# Altium schematic symbol library R.SchLib: 131 symbols
Pins are listed as number, name and electrical type; pins without a type are passive.

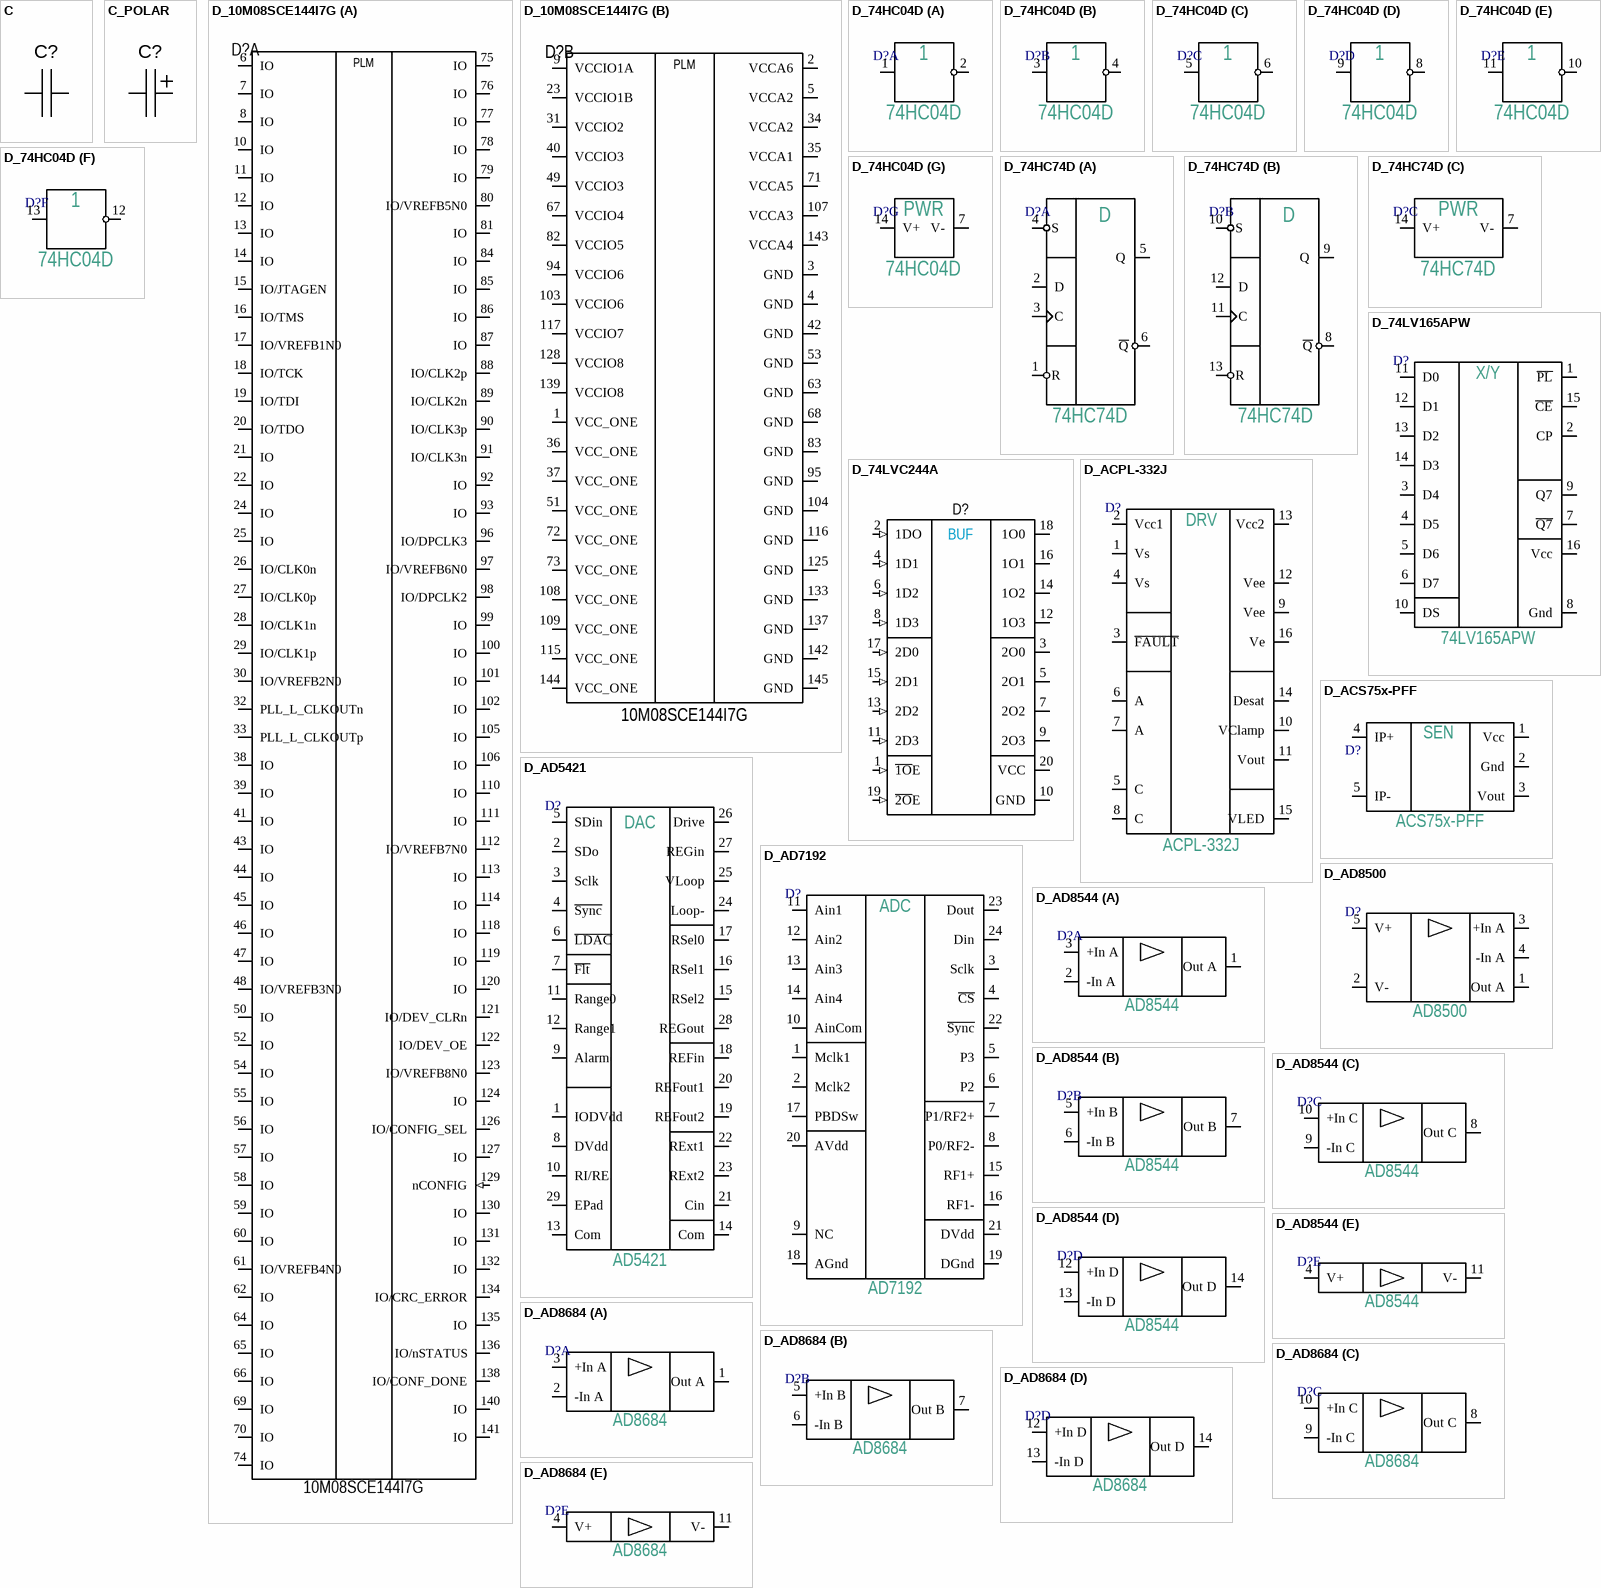
[diagram p0: symbols C to D_AD8684]

## C
designator C?
pins: 1, 2

## C_POLAR
designator C?
pins: 1, 2

## D_10M08SCE144I7G
designator D?  (value not drawn)
Part Number: 10M08SCE144I7G
part A pins: 6 IO (io), 7 IO (io), 8 IO (io), 10 IO (io), 11 IO (io), 12 IO (io), 13 IO (io), 14 IO (io), 15 IO/JTAGEN (io), 16 IO/TMS (io), 17 IO/VREFB1N0 (io), 18 IO/TCK (io), 19 IO/TDI (io), 20 IO/TDO (io), 21 IO (io), 22 IO (io), 24 IO (io), 25 IO (io), 26 IO/CLK0n (io), 27 IO/CLK0p (io), 28 IO/CLK1n (io), 29 IO/CLK1p (io), 30 IO/VREFB2N0 (io), 32 PLL_L_CLKOUTn (io), 33 PLL_L_CLKOUTp (io), 38 IO (io), 39 IO (io), 41 IO (io), 43 IO (io), 44 IO (io), 45 IO (io), 46 IO (io), 47 IO (io), 48 IO/VREFB3N0 (io), 50 IO (io), 52 IO (io), 54 IO (io), 55 IO (io), 56 IO (io), 57 IO (io), 58 IO (io), 59 IO (io), 60 IO (io), 61 IO/VREFB4N0 (io), 62 IO (io), 64 IO (io), 65 IO (io), 66 IO (io), 69 IO (io), 70 IO (io), 74 IO (io), 75 IO (io), 76 IO (io), 77 IO (io), 78 IO (io), 79 IO (io), 80 IO/VREFB5N0 (io), 81 IO (io), 84 IO (io), 85 IO (io), 86 IO (io), 87 IO (io), 88 IO/CLK2p (io), 89 IO/CLK2n (io), 90 IO/CLK3p (io), 91 IO/CLK3n (io), 92 IO (io), 93 IO (io), 96 IO/DPCLK3 (io), 97 IO/VREFB6N0 (io), 98 IO/DPCLK2 (io), 99 IO (io), 100 IO (io), 101 IO (io), 102 IO (io), 105 IO (io), 106 IO (io), 110 IO (io), 111 IO (io), 112 IO/VREFB7N0 (io), 113 IO (io), 114 IO (io), 118 IO (io), 119 IO (io), 120 IO (io), 121 IO/DEV_CLRn (hiz), 122 IO/DEV_OE (hiz), 123 IO/VREFB8N0 (io), 124 IO (io), 126 IO/CONFIG_SEL (hiz), 127 IO (io), 129 nCONFIG (in), 130 IO (io), 131 IO (io), 132 IO (io), 134 IO/CRC_ERROR (io), 135 IO (io), 136 IO/nSTATUS (io), 138 IO/CONF_DONE (io), 140 IO (io), 141 IO (io)
part B pins: 1 VCC_ONE (power), 2 VCCA6 (power), 3 GND (power), 4 GND (power), 5 VCCA2 (power), 9 VCCIO1A (power), 23 VCCIO1B (power), 31 VCCIO2 (power), 34 VCCA2 (power), 35 VCCA1 (power), 36 VCC_ONE (power), 37 VCC_ONE (power), 40 VCCIO3 (power), 42 GND (power), 49 VCCIO3 (power), 51 VCC_ONE (power), 53 GND (power), 63 GND (power), 67 VCCIO4 (power), 68 GND (power), 71 VCCA5 (power), 72 VCC_ONE (power), 73 VCC_ONE (power), 82 VCCIO5 (power), 83 GND (power), 94 VCCIO6 (power), 95 GND (power), 103 VCCIO6 (power), 104 GND (power), 107 VCCA3 (power), 108 VCC_ONE (power), 109 VCC_ONE (power), 115 VCC_ONE (power), 116 GND (power), 117 VCCIO7 (power), 125 GND (power), 128 VCCIO8 (power), 133 GND (power), 137 GND (power), 139 VCCIO8 (power), 142 GND (power), 143 VCCA4 (power), 144 VCC_ONE (power), 145 GND (power) "An exposed ground pad at the bottom of the package"
part A text: PLM
part B text: PLM

## D_74HC04D
designator D?
part A pins: 1, 2
part B pins: 3, 4
part C pins: 5, 6
part D pins: 8, 9
part E pins: 10, 11
part F pins: 12, 13
part G pins: 7 V-, 14 V+
part A text: 74HC04D
part B text: 74HC04D
part C text: 74HC04D
part D text: 74HC04D
part E text: 74HC04D
part F text: 74HC04D
part G text: PWR; 74HC04D

## D_74HC74D
designator D?
part A pins: 1 R, 2 D, 3 C, 4 S, 5 Q, 6 ~{Q}
part B pins: 8 ~{Q}, 9 Q, 10 S, 11 C, 12 D, 13 R
part C pins: 7 V-, 14 V+
part A text: 74HC74D
part B text: 74HC74D
part C text: PWR; 74HC74D

## D_74LV165APW
designator D?
pins: 1 ~{PL}, 2 CP, 3 D4, 4 D5, 5 D6, 6 D7, 7 ~{Q7}, 8 Gnd, 9 Q7, 10 DS, 11 D0, 12 D1, 13 D2, 14 D3, 15 ~{CE}, 16 Vcc
text: X/Y; 74LV165APW

## D_74LVC244A
designator D?, comment микросхема 74LVC244A  (value not drawn)
8-канальный не инвертирующий буфер; Manufacturer: ON SEMICONDUCTOR; Logic Device Type: Buffer, Non Inverting; Supply Voltage Max: 3.6; Supply Voltage Min: 2; Logic Case Style: TSSOP; Operating Temperature Max: 85 C; Operating Temperature Min: -40 C; Supplier: Чип и Дип; ManufacturerPartNumber: 74LVC244A; Family: микросхема
pins: 1 ~{1O}E (in), 2 1DO (in), 3 2O0 (hiz), 4 1D1 (in), 5 2O1 (hiz), 6 1D2 (in), 7 2O2 (hiz), 8 1D3 (in), 9 2O3 (hiz), 10 GND (power), 11 2D3 (in), 12 1O3 (hiz), 13 2D2 (in), 14 1O2 (hiz), 15 2D1 (in), 16 1O1 (hiz), 17 2D0 (in), 18 1O0 (hiz), 19 ~{2O}E (in), 20 VCC (power)
text: BUF

## D_ACPL-332J
designator D?
pins: 1 Vs, 2 Vcc1, 3 ~{FAULT}, 4 Vs, 5 C, 6 A, 7 A, 8 C, 9 Vee, 10 VClamp, 11 Vout, 12 Vee, 13 Vcc2, 14 Desat, 15 VLED, 16 Ve
text: DRV; ACPL-332J

## D_ACS75x-PFF
designator D?
pins: 1 Vcc, 2 Gnd, 3 Vout, 4 IP+, 5 IP-
text: SEN; ACS75x-PFF

## D_AD5421
designator D?
pins: 1 IODVdd, 2 SDo, 3 Sclk, 4 ~{Sync}, 5 SDin, 6 ~{LDAC}, 7 ~{Flt}, 8 DVdd, 9 Alarm, 10 RI/RE, 11 Range0, 12 Range1, 13 Com, 14 Com, 15 RSel2, 16 RSel1, 17 RSel0, 18 REFin, 19 REFout2, 20 REFout1, 21 Cin, 22 RExt1, 23 RExt2, 24 Loop-, 25 VLoop, 26 Drive, 27 REGin, 28 REGout, 29 EPad
text: DAC; AD5421

## D_AD7192
designator D?
pins: 1 Mclk1, 2 Mclk2, 3 Sclk, 4 ~{CS}, 5 P3, 6 P2, 7 P1/RF2+, 8 P0/RF2-, 9 NC, 10 AinCom, 11 Ain1, 12 Ain2, 13 Ain3, 14 Ain4, 15 RF1+, 16 RF1-, 17 PBDSw, 18 AGnd, 19 DGnd, 20 AVdd, 21 DVdd, 22 ~{Sync}, 23 Dout, 24 Din
text: ADC; AD7192

## D_AD8500
designator D?
pins: 1 Out A, 2 V-, 3 +In A, 4 -In A, 5 V+
text: AD8500

## D_AD8544
designator D?
part A pins: 1 Out A, 2 -In A, 3 +In A
part B pins: 5 +In B, 6 -In B, 7 Out B
part C pins: 8 Out C, 9 -In C, 10 +In C
part D pins: 12 +In D, 13 -In D, 14 Out D
part E pins: 4 V+, 11 V-
part A text: AD8544
part B text: AD8544
part C text: AD8544
part D text: AD8544
part E text: AD8544

## D_AD8684
designator D?
part A pins: 1 Out A, 2 -In A, 3 +In A
part B pins: 5 +In B, 6 -In B, 7 Out B
part C pins: 8 Out C, 9 -In C, 10 +In C
part D pins: 12 +In D, 13 -In D, 14 Out D
part E pins: 4 V+, 11 V-
part A text: AD8684
part B text: AD8684
part C text: AD8684
part D text: AD8684
part E text: AD8684

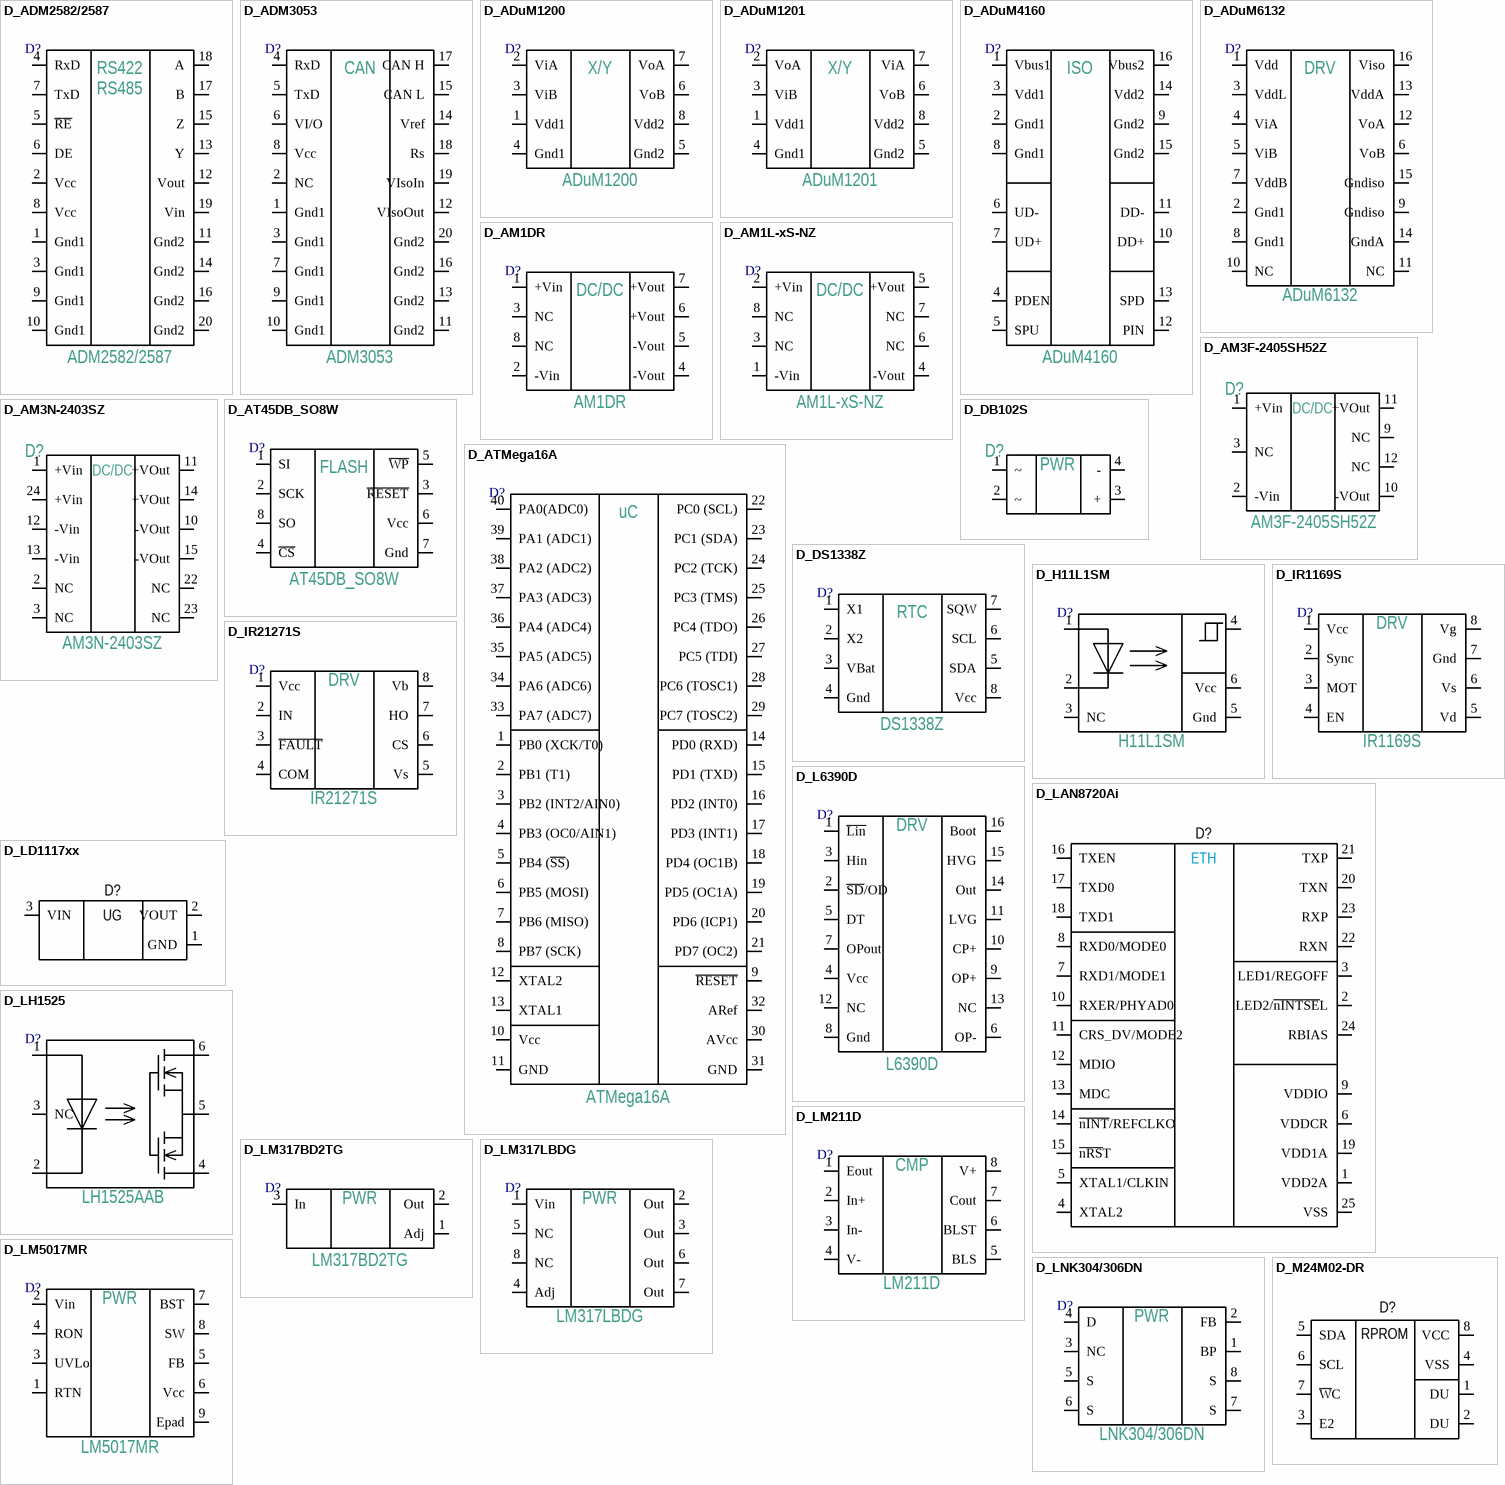
[diagram p1: symbols D_ADM2582/2587 to D_M24M02-DR]

## D_ADM2582/2587
designator D?
pins: 1 Gnd1, 2 Vcc, 3 Gnd1, 4 RxD, 5 ~{RE}, 6 DE, 7 TxD, 8 Vcc, 9 Gnd1, 10 Gnd1, 11 Gnd2, 12 Vout, 13 Y, 14 Gnd2, 15 Z, 16 Gnd2, 17 B, 18 A, 19 Vin, 20 Gnd2
text: RS422; RS485; ADM2582/2587

## D_ADM3053
designator D?
pins: 1 Gnd1, 2 NC, 3 Gnd1, 4 RxD, 5 TxD, 6 VI/O, 7 Gnd1, 8 Vcc, 9 Gnd1, 10 Gnd1, 11 Gnd2, 12 VIsoOut, 13 Gnd2, 14 Vref, 15 CAN L, 16 Gnd2, 17 CAN H, 18 Rs, 19 VIsoIn, 20 Gnd2
text: CAN; ADM3053

## D_ADuM1200
designator D?
pins: 1 Vdd1, 2 ViA, 3 ViB, 4 Gnd1, 5 Gnd2, 6 VoB, 7 VoA, 8 Vdd2
text: X/Y; ADuM1200

## D_ADuM1201
designator D?
pins: 1 Vdd1, 2 VoA, 3 ViB, 4 Gnd1, 5 Gnd2, 6 VoB, 7 ViA, 8 Vdd2
text: X/Y; ADuM1201

## D_ADuM4160
designator D?
pins: 1 Vbus1, 2 Gnd1, 3 Vdd1, 4 PDEN, 5 SPU, 6 UD-, 7 UD+, 8 Gnd1, 9 Gnd2, 10 DD+, 11 DD-, 12 PIN, 13 SPD, 14 Vdd2, 15 Gnd2, 16 Vbus2
text: ISO; ADuM4160

## D_ADuM6132
designator D?
pins: 1 Vdd, 2 Gnd1, 3 VddL, 4 ViA, 5 ViB, 6 VoB, 7 VddB, 8 Gnd1, 9 Gndiso, 10 NC, 11 NC, 12 VoA, 13 VddA, 14 GndA, 15 Gndiso, 16 Viso
text: DRV; ADuM6132

## D_AM1DR
designator D?
pins: 1 +Vin, 2 -Vin, 3 NC, 4 -Vout, 5 -Vout, 6 +Vout, 7 +Vout, 8 NC
text: DC/DC; AM1DR

## D_AM1L-xS-NZ
designator D?
pins: 1 -Vin, 2 +Vin, 3 NC, 4 -Vout, 5 +Vout, 6 NC, 7 NC, 8 NC
text: DC/DC; AM1L-xS-NZ

## D_AM3F-2405SH52Z
designator D?
pins: 1 +Vin, 2 -Vin, 3 NC, 9 NC, 10 -VOut, 11 +VOut, 12 NC
text: DC/DC; AM3F-2405SH52Z

## D_AM3N-2403SZ
designator D?  (value not drawn)
pins: 1 +Vin, 2 NC, 3 NC, 10 -VOut, 11 +VOut, 12 -Vin, 13 -Vin, 14 +VOut, 15 -VOut, 22 NC, 23 NC, 24 +Vin
text: DC/DC; AM3N-2403SZ

## D_AT45DB_SO8W
designator D?
pins: 1 SI, 2 SCK, 3 ~{RESET}, 4 ~{CS}, 5 ~{WP}, 6 Vcc, 7 Gnd, 8 SO
text: FLASH; AT45DB_SO8W

## D_ATMega16A
designator D?
pins: 1 PB0 (XCK/T0), 2 PB1 (T1), 3 PB2 (INT2/AIN0), 4 PB3 (OC0/AIN1), 5 PB4 (~{SS}), 6 PB5 (MOSI), 7 PB6 (MISO), 8 PB7 (SCK), 9 ~{RESET}, 10 Vcc, 11 GND, 12 XTAL2, 13 XTAL1, 14 PD0 (RXD), 15 PD1 (TXD), 16 PD2 (INT0), 17 PD3 (INT1), 18 PD4 (OC1B), 19 PD5 (OC1A), 20 PD6 (ICP1), 21 PD7 (OC2), 22 PC0 (SCL), 23 PC1 (SDA), 24 PC2 (TCK), 25 PC3 (TMS), 26 PC4 (TDO), 27 PC5 (TDI), 28 PC6 (TOSC1), 29 PC7 (TOSC2), 30 AVcc, 31 GND, 32 ARef, 33 PA7 (ADC7), 34 PA6 (ADC6), 35 PA5 (ADC5), 36 PA4 (ADC4), 37 PA3 (ADC3), 38 PA2 (ADC2), 39 PA1 (ADC1), 40 PA0(ADC0)
text: uC; ATMega16A

## D_DB102S
designator D?  (value not drawn)
pins: 1 ~, 2 ~, 3 +, 4 -
text: PWR

## D_DS1338Z
designator D?
pins: 1 X1, 2 X2, 3 VBat, 4 Gnd, 5 SDA, 6 SCL, 7 SQW, 8 Vcc
text: RTC; DS1338Z

## D_H11L1SM
designator D?
pins: 1 A, 2 K, 3 NC, 4, 5 Gnd, 6 Vcc
text: H11L1SM

## D_IR1169S
designator D?
pins: 1 Vcc, 2 Sync, 3 MOT, 4 EN, 5 Vd, 6 Vs, 7 Gnd, 8 Vg
text: DRV; IR1169S

## D_IR21271S
designator D?
pins: 1 Vcc, 2 IN, 3 ~{FAULT}, 4 COM, 5 Vs, 6 CS, 7 HO, 8 Vb
text: DRV; IR21271S

## D_L6390D
designator D?
pins: 1 ~{Lin}, 2 ~{SD}/OD, 3 Hin, 4 Vcc, 5 DT, 6 OP-, 7 OPout, 8 Gnd, 9 OP+, 10 CP+, 11 LVG, 12 NC, 13 NC, 14 Out, 15 HVG, 16 Boot
text: DRV; L6390D

## D_LAN8720Ai
designator D?, comment Микросхема LAN8720AI-CP  (value not drawn)
Ethernet трансивер 10/100 RMII 24QFN; Manufacturer: Microchip Technology; Voltage - Supply: 1.6 V ~ 3.6 V; Type: Transceiver; ManufacturerPartNumber: LAN8720AI-CP; Package / Case: 24-VFQFN Exposed Pad; Operating Temperature: -40°C ~ 85°C; Supplier: Компэл; Protocol: RMII; Family: Микросхема
pins: 1 VDD2A (power), 2 LED2/~{nINTSE}L, 3 LED1/REGOFF, 4 XTAL2, 5 XTAL1/CLKIN, 6 VDDCR (power), 7 RXD1/MODE1, 8 RXD0/MODE0, 9 VDDIO (power), 10 RXER/PHYAD0, 11 CRS_DV/MODE2, 12 MDIO, 13 MDC, 14 ~{nINT}/REFCLKO, 15 ~{nRS}T, 16 TXEN, 17 TXD0, 18 TXD1, 19 VDD1A (power), 20 TXN, 21 TXP, 22 RXN, 23 RXP, 24 RBIAS, 25 VSS (power)
text: ETH

## D_LD1117xx
designator D?, comment Микросхема LD1117S33CTR  (value not drawn)
LDO 3.3V 0.8A SOT223; Manufacturer: STMicroelectronics; Current - Output: 800mA; Voltage - Dropout (Typical): 1.1V @ 800mA; Voltage - Input: Up to 15V; Supplier Device Package: SOT-223; ManufacturerPartNumber: LD1117S33CTR; Operating Temperature: -40°C ~ 125°C; Voltage - Output: 3.3V; Supplier: Компэл; Family: Микросхема
pins: 1 GND (power), 2 VOUT (power), 3 VIN (power)
text: UG

## D_LH1525
designator D?
pins: 1 A, 2 K, 3 NC, 4 S', 5 DC, 6 S
text: LH1525AAB

## D_LM211D
designator D?
pins: 1 Eout, 2 In+, 3 In-, 4 V-, 5 BLS, 6 BLST, 7 Cout, 8 V+
text: CMP; LM211D

## D_LM317BD2TG
designator D?
pins: 1 Adj, 2 Out, 3 In
text: PWR; LM317BD2TG

## D_LM317LBDG
designator D?
pins: 1 Vin, 2 Out, 3 Out, 4 Adj, 5 NC, 6 Out, 7 Out, 8 NC
text: PWR; LM317LBDG

## D_LM5017MR
designator D?
pins: 1 RTN, 2 Vin, 3 UVLo, 4 RON, 5 FB, 6 Vcc, 7 BST, 8 SW, 9 Epad
text: PWR; LM5017MR

## D_LNK304/306DN
designator D?
pins: 1 BP, 2 FB, 3 NC, 4 D, 5 S, 6 S, 7 S, 8 S
text: PWR; LNK304/306DN

## D_M24M02-DR
designator D?, comment Микросхема M24M02-DRMN6TP  (value not drawn)
IC EEPROM 2MBIT 1MHZ 8SO; Manufacturer: STMicroelectronics; Format - Memory: EEPROMs - Serial; Memory Size: 2M (256K x 8); Voltage - Supply: 1.8 V ~ 5.5 V; Speed: 100kHz, 400kHz, 1MHz; Family: Микросхема; Memory Type: EEPROM; Package / Case: 8-SOIC (0.154", 3.90mm Width); ManufacturerPartNumber: M24M02-DRMN6TP; Supplier: Компэл; Operating Temperature: -40°C ~ 85°C (TA)
pins: 1 DU, 2 DU, 3 E2, 4 VSS (power), 5 SDA, 6 SCL, 7 ~{W}C, 8 VCC (power)
text: RPROM

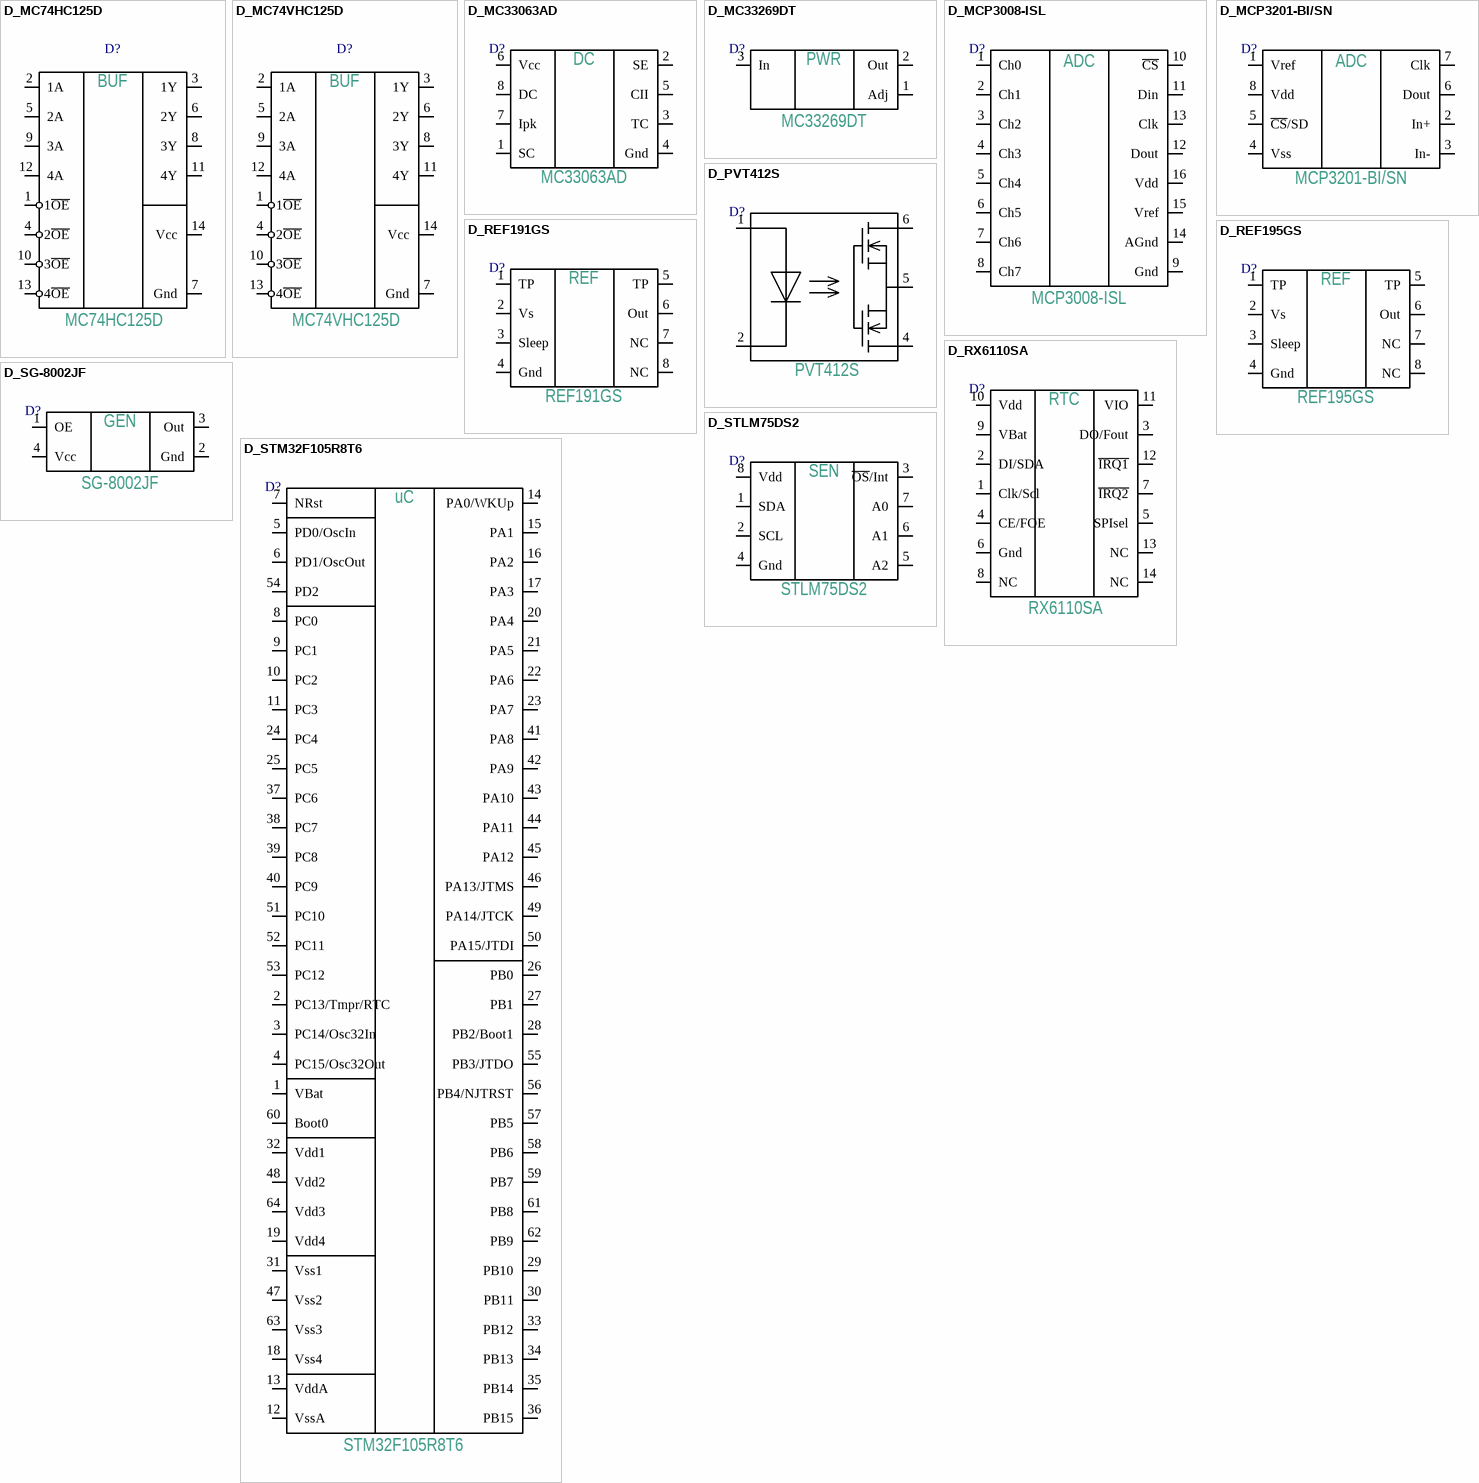
[diagram p2: symbols D_MC74HC125D to D_STM32F105R8T6]

## D_MC74HC125D
designator D?
pins: 1 1~{OE}, 2 1A, 3 1Y, 4 2~{OE}, 5 2A, 6 2Y, 7 Gnd, 8 3Y, 9 3A, 10 3~{OE}, 11 4Y, 12 4A, 13 4~{OE}, 14 Vcc
text: BUF; MC74HC125D

## D_MC74VHC125D
designator D?
pins: 1 1~{OE}, 2 1A, 3 1Y, 4 2~{OE}, 5 2A, 6 2Y, 7 Gnd, 8 3Y, 9 3A, 10 3~{OE}, 11 4Y, 12 4A, 13 4~{OE}, 14 Vcc
text: BUF; MC74VHC125D

## D_MC33063AD
designator D?
pins: 1 SC, 2 SE, 3 TC, 4 Gnd, 5 CII, 6 Vcc, 7 Ipk, 8 DC
text: MC33063AD

## D_MC33269DT
designator D?
pins: 1 Adj, 2 Out, 3 In
text: PWR; MC33269DT

## D_MCP3008-ISL
designator D?
pins: 1 Ch0, 2 Ch1, 3 Ch2, 4 Ch3, 5 Ch4, 6 Ch5, 7 Ch6, 8 Ch7, 9 Gnd, 10 ~{CS}, 11 Din, 12 Dout, 13 Clk, 14 AGnd, 15 Vref, 16 Vdd
text: ADC; MCP3008-ISL

## D_MCP3201-BI/SN
designator D?
pins: 1 Vref, 2 In+, 3 In-, 4 Vss, 5 ~{CS}/SD, 6 Dout, 7 Clk, 8 Vdd
text: ADC; MCP3201-BI/SN

## D_PVT412S
designator D?
pins: 1 A, 2 K, 4 S', 5 DC, 6 S
text: PVT412S

## D_REF191GS
designator D?
pins: 1 TP, 2 Vs, 3 Sleep, 4 Gnd, 5 TP, 6 Out, 7 NC, 8 NC
text: REF; REF191GS

## D_REF195GS
designator D?
pins: 1 TP, 2 Vs, 3 Sleep, 4 Gnd, 5 TP, 6 Out, 7 NC, 8 NC
text: REF; REF195GS

## D_RX6110SA
designator D?
pins: 1 Clk/Scl, 2 DI/SDA, 3 DO/Fout, 4 CE/FOE, 5 SPIsel, 6 Gnd, 7 ~{IRQ2}, 8 NC, 9 VBat, 10 Vdd, 11 VIO, 12 ~{IRQ1}, 13 NC, 14 NC
text: RTC; RX6110SA

## D_SG-8002JF
designator D?
pins: 1 OE, 2 Gnd, 3 Out, 4 Vcc
text: GEN; SG-8002JF

## D_STLM75DS2
designator D?
pins: 1 SDA, 2 SCL, 3 ~{OS}/Int, 4 Gnd, 5 A2, 6 A1, 7 A0, 8 Vdd
text: SEN; STLM75DS2

## D_STM32F105R8T6
designator D?
pins: 1 VBat, 2 PC13/Tmpr/RTC, 3 PC14/Osc32In, 4 PC15/Osc32Out, 5 PD0/OscIn, 6 PD1/OscOut, 7 NRst, 8 PC0, 9 PC1, 10 PC2, 11 PC3, 12 VssA, 13 VddA, 14 PA0/WKUp, 15 PA1, 16 PA2, 17 PA3, 18 Vss4, 19 Vdd4, 20 PA4, 21 PA5, 22 PA6, 23 PA7, 24 PC4, 25 PC5, 26 PB0, 27 PB1, 28 PB2/Boot1, 29 PB10, 30 PB11, 31 Vss1, 32 Vdd1, 33 PB12, 34 PB13, 35 PB14, 36 PB15, 37 PC6, 38 PC7, 39 PC8, 40 PC9, 41 PA8, 42 PA9, 43 PA10, 44 PA11, 45 PA12, 46 PA13/JTMS, 47 Vss2, 48 Vdd2, 49 PA14/JTCK, 50 PA15/JTDI, 51 PC10, 52 PC11, 53 PC12, 54 PD2, 55 PB3/JTDO, 56 PB4/NJTRST, 57 PB5, 58 PB6, 59 PB7, 60 Boot0, 61 PB8, 62 PB9, 63 Vss3, 64 Vdd3
text: uC; STM32F105R8T6

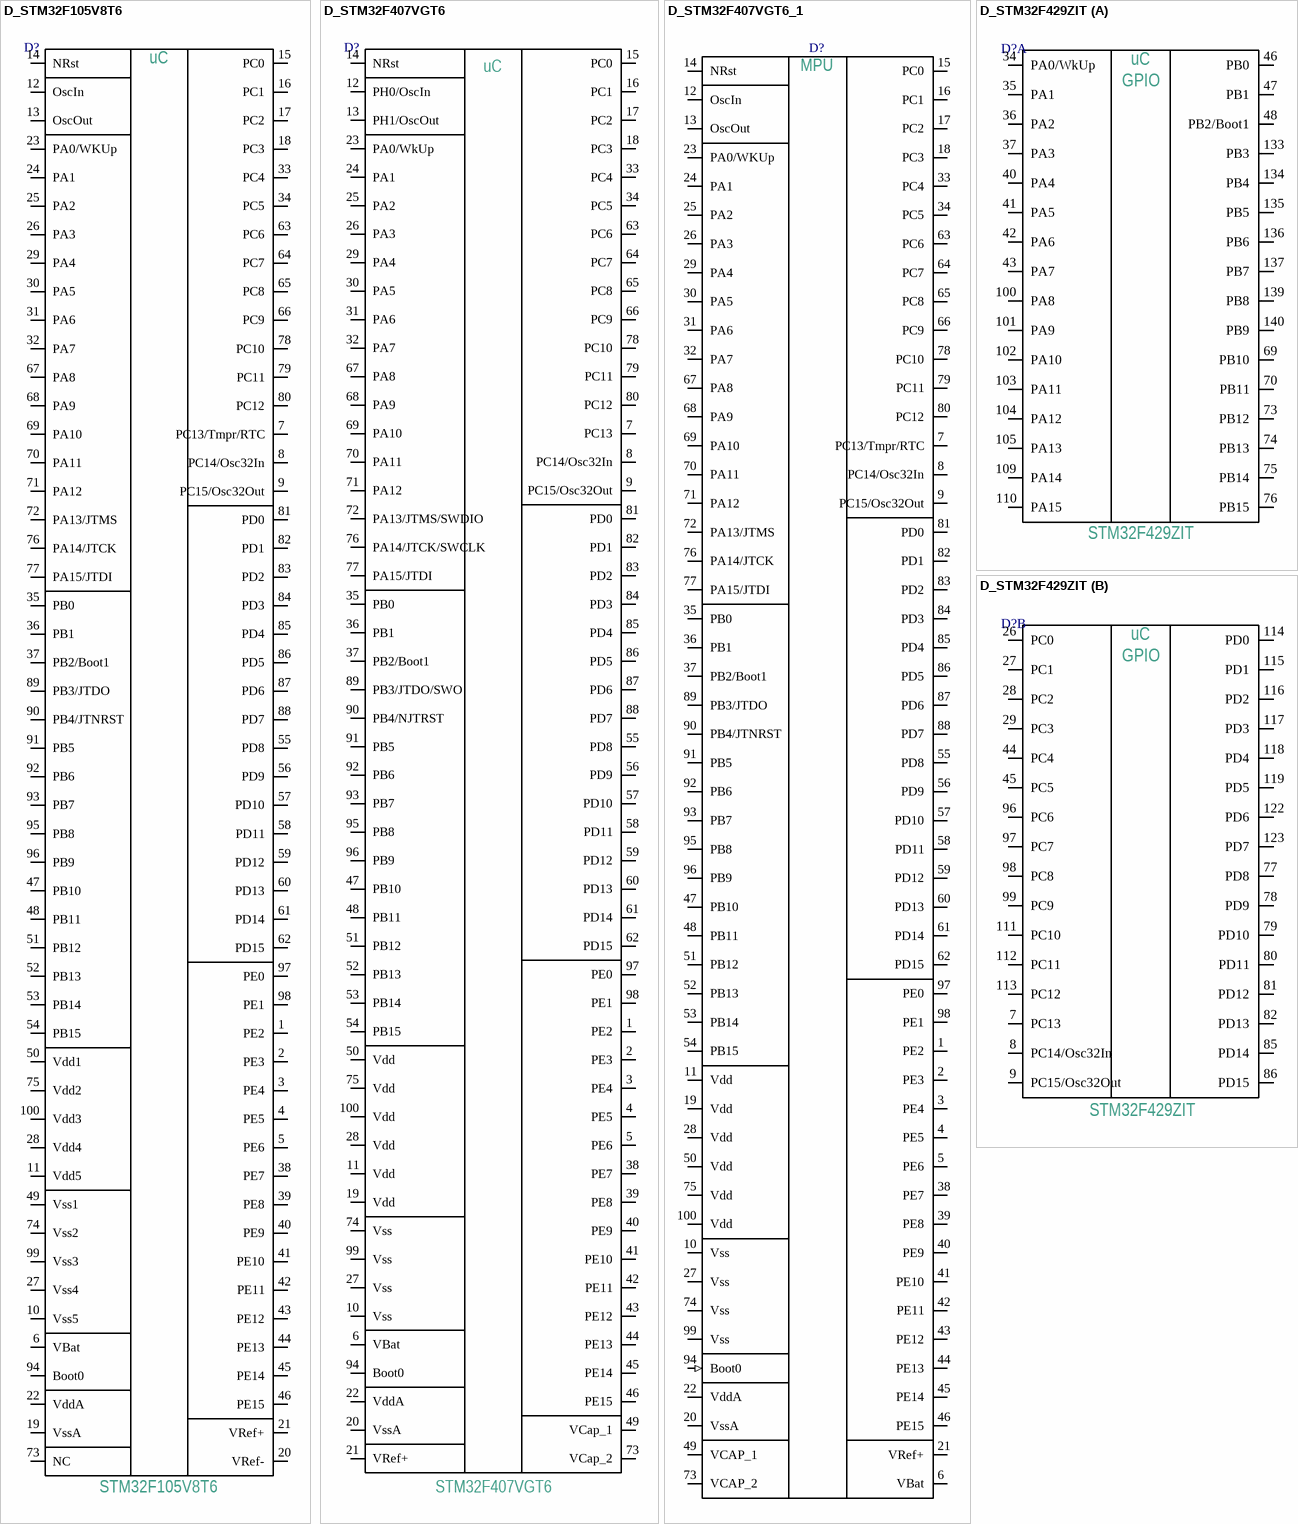
[diagram p3: symbols D_STM32F105V8T6 to D_STM32F429ZIT]

## D_STM32F105V8T6
designator D?
pins: 1 PE2, 2 PE3, 3 PE4, 4 PE5, 5 PE6, 6 VBat, 7 PC13/Tmpr/RTC, 8 PC14/Osc32In, 9 PC15/Osc32Out, 10 Vss5, 11 Vdd5, 12 OscIn, 13 OscOut, 14 NRst, 15 PC0, 16 PC1, 17 PC2, 18 PC3, 19 VssA, 20 VRef-, 21 VRef+, 22 VddA, 23 PA0/WKUp, 24 PA1, 25 PA2, 26 PA3, 27 Vss4, 28 Vdd4, 29 PA4, 30 PA5, 31 PA6, 32 PA7, 33 PC4, 34 PC5, 35 PB0, 36 PB1, 37 PB2/Boot1, 38 PE7, 39 PE8, 40 PE9, 41 PE10, 42 PE11, 43 PE12, 44 PE13, 45 PE14, 46 PE15, 47 PB10, 48 PB11, 49 Vss1, 50 Vdd1, 51 PB12, 52 PB13, 53 PB14, 54 PB15, 55 PD8, 56 PD9, 57 PD10, 58 PD11, 59 PD12, 60 PD13, 61 PD14, 62 PD15, 63 PC6, 64 PC7, 65 PC8, 66 PC9, 67 PA8, 68 PA9, 69 PA10, 70 PA11, 71 PA12, 72 PA13/JTMS, 73 NC, 74 Vss2, 75 Vdd2, 76 PA14/JTCK, 77 PA15/JTDI, 78 PC10, 79 PC11, 80 PC12, 81 PD0, 82 PD1, 83 PD2, 84 PD3, 85 PD4, 86 PD5, 87 PD6, 88 PD7, 89 PB3/JTDO, 90 PB4/JTNRST, 91 PB5, 92 PB6, 93 PB7, 94 Boot0, 95 PB8, 96 PB9, 97 PE0, 98 PE1, 99 Vss3, 100 Vdd3
text: uC; STM32F105V8T6

## D_STM32F407VGT6
designator D?
pins: 1 PE2, 2 PE3, 3 PE4, 4 PE5, 5 PE6, 6 VBat, 7 PC13, 8 PC14/Osc32In, 9 PC15/Osc32Out, 10 Vss, 11 Vdd, 12 PH0/OscIn, 13 PH1/OscOut, 14 NRst, 15 PC0, 16 PC1, 17 PC2, 18 PC3, 19 Vdd, 20 VssA, 21 VRef+, 22 VddA, 23 PA0/WkUp, 24 PA1, 25 PA2, 26 PA3, 27 Vss, 28 Vdd, 29 PA4, 30 PA5, 31 PA6, 32 PA7, 33 PC4, 34 PC5, 35 PB0, 36 PB1, 37 PB2/Boot1, 38 PE7, 39 PE8, 40 PE9, 41 PE10, 42 PE11, 43 PE12, 44 PE13, 45 PE14, 46 PE15, 47 PB10, 48 PB11, 49 VCap_1, 50 Vdd, 51 PB12, 52 PB13, 53 PB14, 54 PB15, 55 PD8, 56 PD9, 57 PD10, 58 PD11, 59 PD12, 60 PD13, 61 PD14, 62 PD15, 63 PC6, 64 PC7, 65 PC8, 66 PC9, 67 PA8, 68 PA9, 69 PA10, 70 PA11, 71 PA12, 72 PA13/JTMS/SWDIO, 73 VCap_2, 74 Vss, 75 Vdd, 76 PA14/JTCK/SWCLK, 77 PA15/JTDI, 78 PC10, 79 PC11, 80 PC12, 81 PD0, 82 PD1, 83 PD2, 84 PD3, 85 PD4, 86 PD5, 87 PD6, 88 PD7, 89 PB3/JTDO/SWO, 90 PB4/NJTRST, 91 PB5, 92 PB6, 93 PB7, 94 Boot0, 95 PB8, 96 PB9, 97 PE0, 98 PE1, 99 Vss, 100 Vdd
text: uC; STM32F407VGT6

## D_STM32F407VGT6_1
designator D?, comment Микросхема STM32F407VGT6  (value not drawn)
Микроконтроллер STM32F407VGT; Manufacturer: STMicroelectronics; Maximum Clock Frequency: 168 MHz; Operating Supply Voltage: 1.8 V to 3.6 V; Family: Микросхема; Supplier: Компэл; Minimum Operating Temperature: - 40 C; ManufacturerPartNumber: STM32F407VGT6; Maximum Operating Temperature: + 85 C; Package / Case: LQFP-100
pins: 1 PE2, 2 PE3, 3 PE4, 4 PE5, 5 PE6, 6 VBat, 7 PC13/Tmpr/RTC, 8 PC14/Osc32In, 9 PC15/Osc32Out, 10 Vss (power), 11 Vdd (power), 12 OscIn, 13 OscOut, 14 NRst (oc), 15 PC0, 16 PC1, 17 PC2, 18 PC3, 19 Vdd (power), 20 VssA (power), 21 VRef+ (power), 22 VddA (power), 23 PA0/WKUp, 24 PA1, 25 PA2, 26 PA3, 27 Vss (power), 28 Vdd (power), 29 PA4, 30 PA5, 31 PA6, 32 PA7, 33 PC4, 34 PC5, 35 PB0, 36 PB1, 37 PB2/Boot1, 38 PE7, 39 PE8, 40 PE9, 41 PE10, 42 PE11, 43 PE12, 44 PE13, 45 PE14, 46 PE15, 47 PB10, 48 PB11, 49 VCAP_1 (power), 50 Vdd (power), 51 PB12, 52 PB13, 53 PB14, 54 PB15, 55 PD8, 56 PD9, 57 PD10, 58 PD11, 59 PD12, 60 PD13, 61 PD14, 62 PD15, 63 PC6, 64 PC7, 65 PC8, 66 PC9, 67 PA8, 68 PA9, 69 PA10, 70 PA11, 71 PA12, 72 PA13/JTMS, 73 VCAP_2 (power), 74 Vss (power), 75 Vdd (power), 76 PA14/JTCK, 77 PA15/JTDI, 78 PC10, 79 PC11, 80 PC12, 81 PD0, 82 PD1, 83 PD2, 84 PD3, 85 PD4, 86 PD5, 87 PD6, 88 PD7, 89 PB3/JTDO, 90 PB4/JTNRST, 91 PB5, 92 PB6, 93 PB7, 94 Boot0 (in), 95 PB8, 96 PB9, 97 PE0, 98 PE1, 99 Vss (power), 100 Vdd (power)
text: MPU

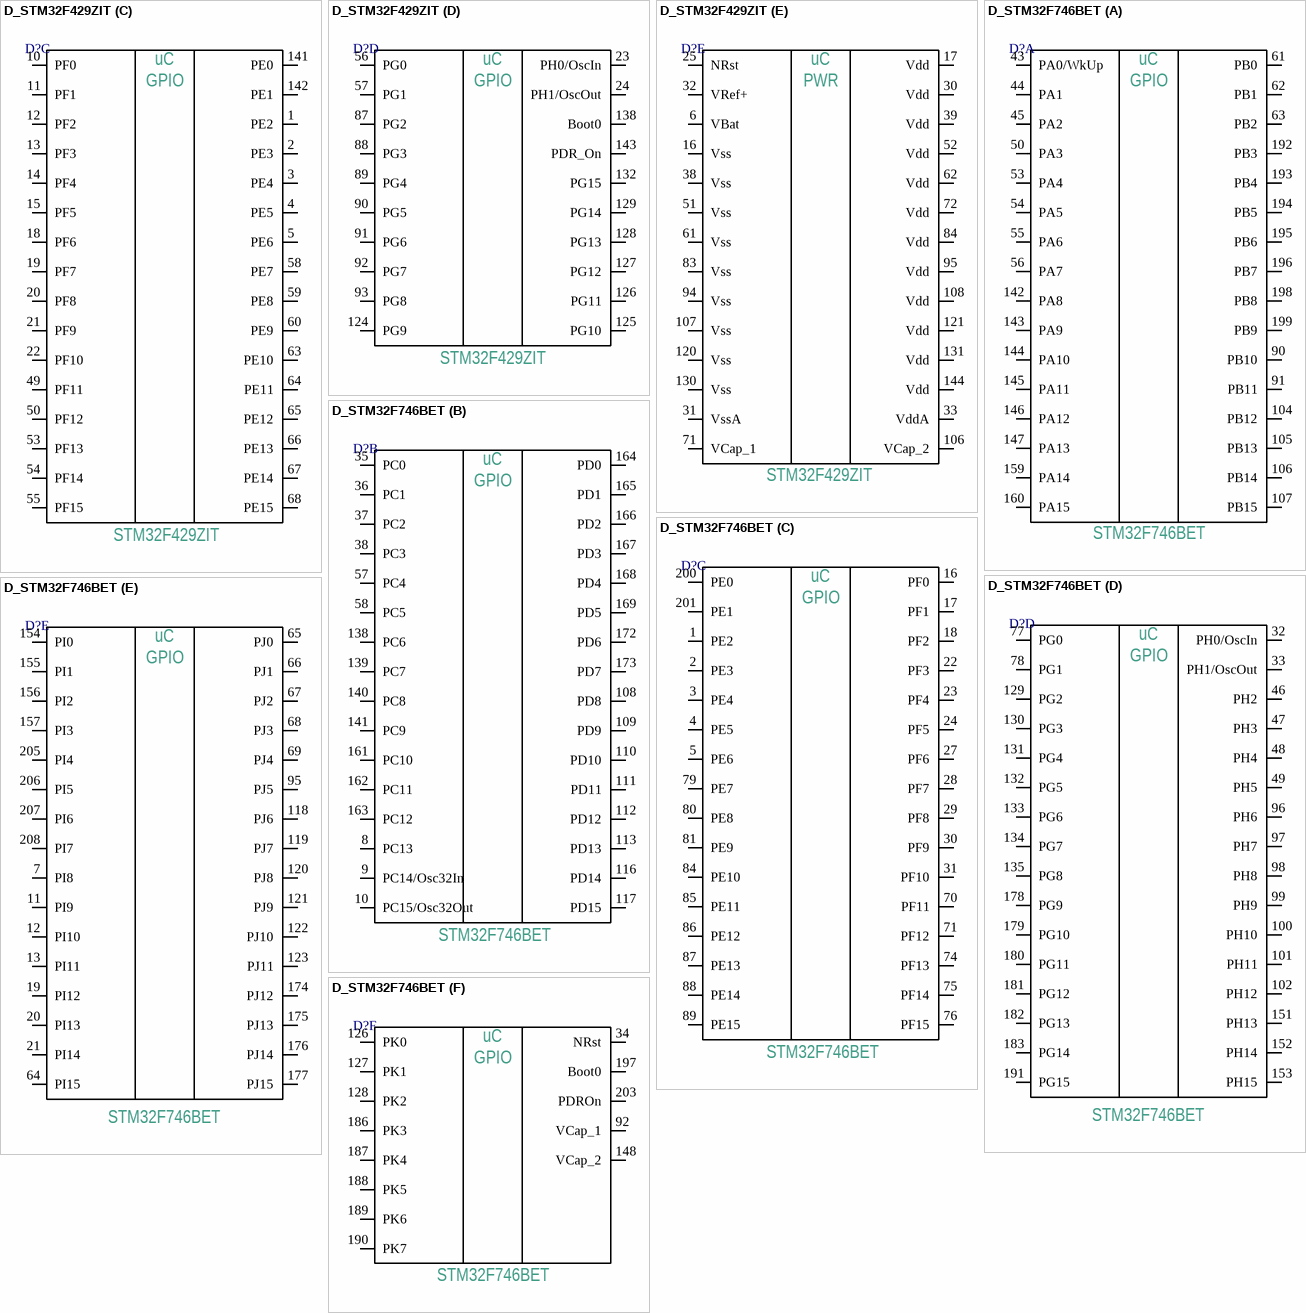
[diagram p4: symbols D_STM32F429ZIT to D_STM32F746BET]

## D_STM32F429ZIT
designator D?
part A pins: 34 PA0/WkUp, 35 PA1, 36 PA2, 37 PA3, 40 PA4, 41 PA5, 42 PA6, 43 PA7, 46 PB0, 47 PB1, 48 PB2/Boot1, 69 PB10, 70 PB11, 73 PB12, 74 PB13, 75 PB14, 76 PB15, 100 PA8, 101 PA9, 102 PA10, 103 PA11, 104 PA12, 105 PA13, 109 PA14, 110 PA15, 133 PB3, 134 PB4, 135 PB5, 136 PB6, 137 PB7, 139 PB8, 140 PB9
part B pins: 7 PC13, 8 PC14/Osc32In, 9 PC15/Osc32Out, 26 PC0, 27 PC1, 28 PC2, 29 PC3, 44 PC4, 45 PC5, 77 PD8, 78 PD9, 79 PD10, 80 PD11, 81 PD12, 82 PD13, 85 PD14, 86 PD15, 96 PC6, 97 PC7, 98 PC8, 99 PC9, 111 PC10, 112 PC11, 113 PC12, 114 PD0, 115 PD1, 116 PD2, 117 PD3, 118 PD4, 119 PD5, 122 PD6, 123 PD7
part C pins: 1 PE2, 2 PE3, 3 PE4, 4 PE5, 5 PE6, 10 PF0, 11 PF1, 12 PF2, 13 PF3, 14 PF4, 15 PF5, 18 PF6, 19 PF7, 20 PF8, 21 PF9, 22 PF10, 49 PF11, 50 PF12, 53 PF13, 54 PF14, 55 PF15, 58 PE7, 59 PE8, 60 PE9, 63 PE10, 64 PE11, 65 PE12, 66 PE13, 67 PE14, 68 PE15, 141 PE0, 142 PE1
part D pins: 23 PH0/OscIn, 24 PH1/OscOut, 56 PG0, 57 PG1, 87 PG2, 88 PG3, 89 PG4, 90 PG5, 91 PG6, 92 PG7, 93 PG8, 124 PG9, 125 PG10, 126 PG11, 127 PG12, 128 PG13, 129 PG14, 132 PG15, 138 Boot0, 143 PDR_On
part E pins: 6 VBat, 16 Vss, 17 Vdd, 25 NRst, 30 Vdd, 31 VssA, 32 VRef+, 33 VddA, 38 Vss, 39 Vdd, 51 Vss, 52 Vdd, 61 Vss, 62 Vdd, 71 VCap_1, 72 Vdd, 83 Vss, 84 Vdd, 94 Vss, 95 Vdd, 106 VCap_2, 107 Vss, 108 Vdd, 120 Vss, 121 Vdd, 130 Vss, 131 Vdd, 144 Vdd
part A text: uC; GPIO; STM32F429ZIT
part B text: uC; GPIO; STM32F429ZIT
part C text: uC; GPIO; STM32F429ZIT
part D text: uC; GPIO; STM32F429ZIT
part E text: uC; PWR; STM32F429ZIT

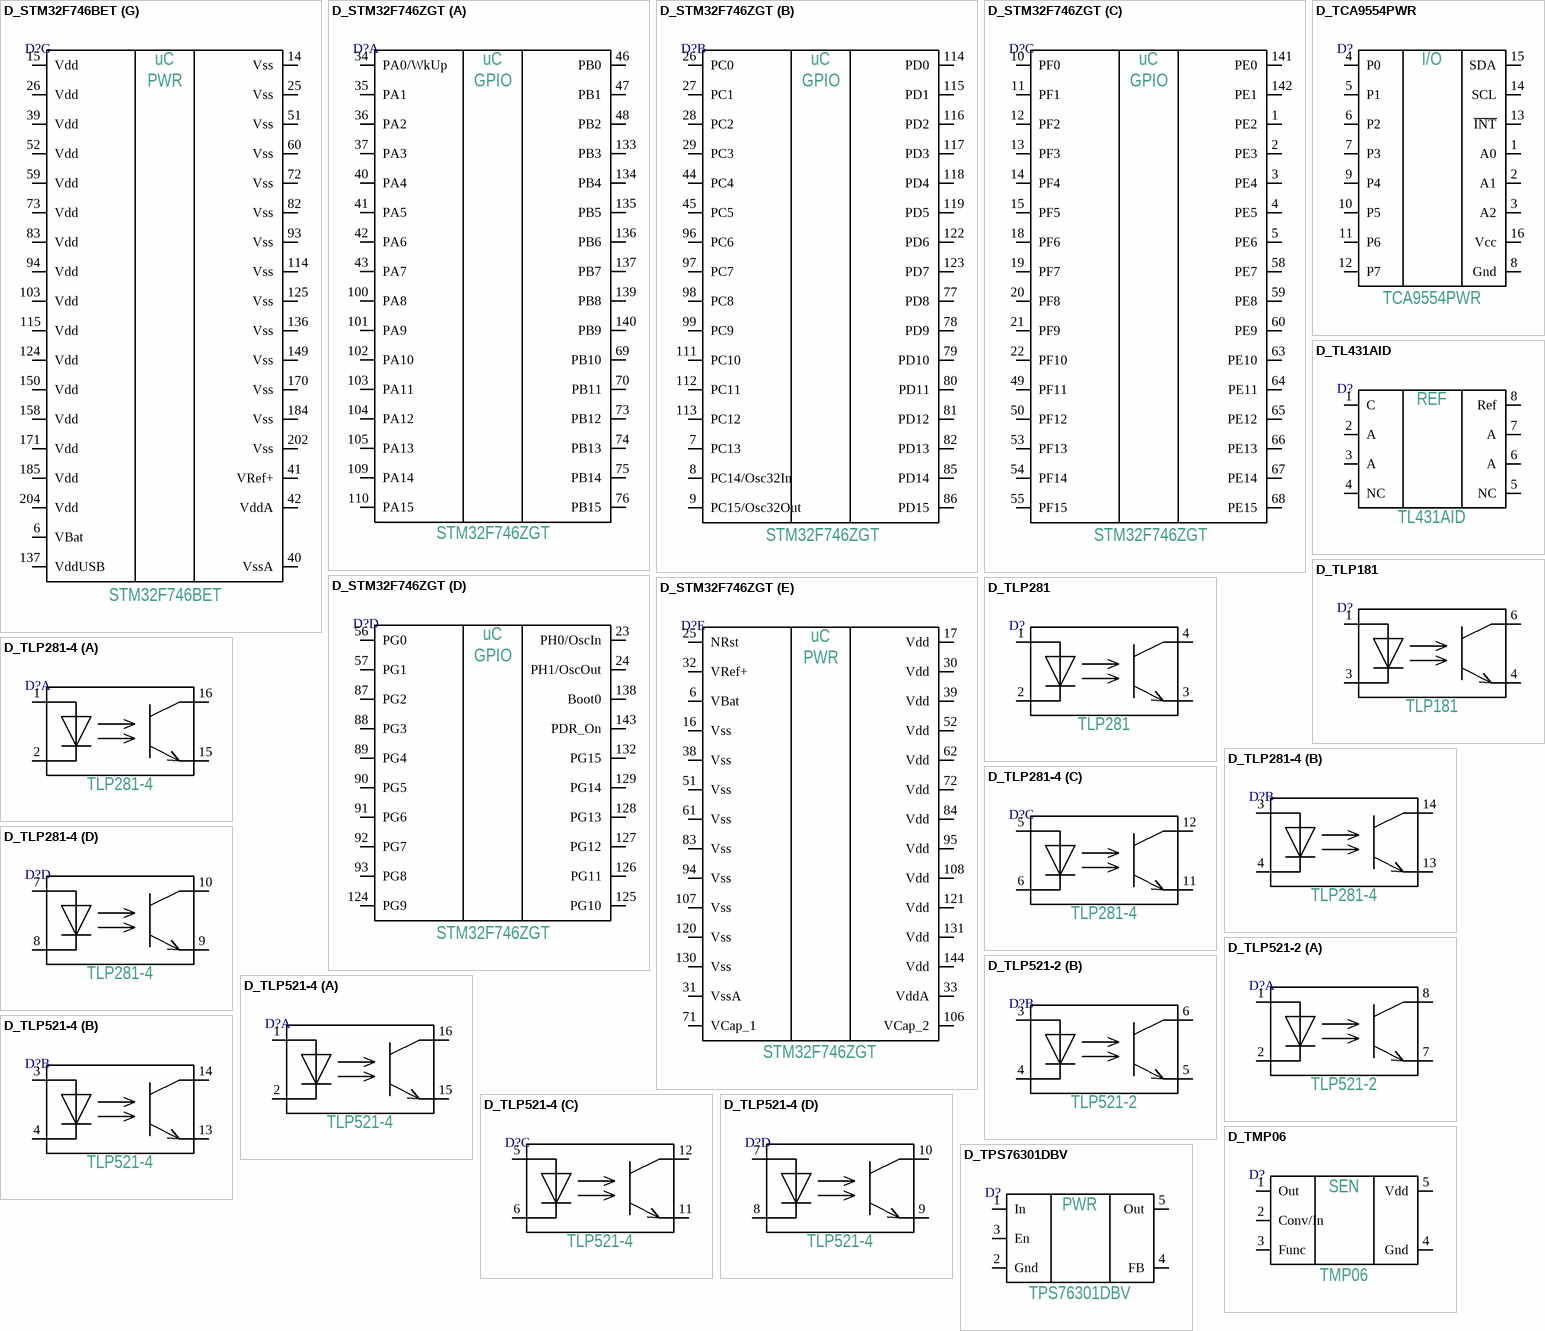
[diagram p5: symbols D_STM32F746BET to D_TPS76301DBV]

## D_STM32F746BET
designator D?
part A pins: 43 PA0/WkUp, 44 PA1, 45 PA2, 50 PA3, 53 PA4, 54 PA5, 55 PA6, 56 PA7, 61 PB0, 62 PB1, 63 PB2, 90 PB10, 91 PB11, 104 PB12, 105 PB13, 106 PB14, 107 PB15, 142 PA8, 143 PA9, 144 PA10, 145 PA11, 146 PA12, 147 PA13, 159 PA14, 160 PA15, 192 PB3, 193 PB4, 194 PB5, 195 PB6, 196 PB7, 198 PB8, 199 PB9
part B pins: 8 PC13, 9 PC14/Osc32In, 10 PC15/Osc32Out, 35 PC0, 36 PC1, 37 PC2, 38 PC3, 57 PC4, 58 PC5, 108 PD8, 109 PD9, 110 PD10, 111 PD11, 112 PD12, 113 PD13, 116 PD14, 117 PD15, 138 PC6, 139 PC7, 140 PC8, 141 PC9, 161 PC10, 162 PC11, 163 PC12, 164 PD0, 165 PD1, 166 PD2, 167 PD3, 168 PD4, 169 PD5, 172 PD6, 173 PD7
part C pins: 1 PE2, 2 PE3, 3 PE4, 4 PE5, 5 PE6, 16 PF0, 17 PF1, 18 PF2, 22 PF3, 23 PF4, 24 PF5, 27 PF6, 28 PF7, 29 PF8, 30 PF9, 31 PF10, 70 PF11, 71 PF12, 74 PF13, 75 PF14, 76 PF15, 79 PE7, 80 PE8, 81 PE9, 84 PE10, 85 PE11, 86 PE12, 87 PE13, 88 PE14, 89 PE15, 200 PE0, 201 PE1
part D pins: 32 PH0/OscIn, 33 PH1/OscOut, 46 PH2, 47 PH3, 48 PH4, 49 PH5, 77 PG0, 78 PG1, 96 PH6, 97 PH7, 98 PH8, 99 PH9, 100 PH10, 101 PH11, 102 PH12, 129 PG2, 130 PG3, 131 PG4, 132 PG5, 133 PG6, 134 PG7, 135 PG8, 151 PH13, 152 PH14, 153 PH15, 178 PG9, 179 PG10, 180 PG11, 181 PG12, 182 PG13, 183 PG14, 191 PG15
part E pins: 7 PI8, 11 PI9, 12 PI10, 13 PI11, 19 PI12, 20 PI13, 21 PI14, 64 PI15, 65 PJ0, 66 PJ1, 67 PJ2, 68 PJ3, 69 PJ4, 95 PJ5, 118 PJ6, 119 PJ7, 120 PJ8, 121 PJ9, 122 PJ10, 123 PJ11, 154 PI0, 155 PI1, 156 PI2, 157 PI3, 174 PJ12, 175 PJ13, 176 PJ14, 177 PJ15, 205 PI4, 206 PI5, 207 PI6, 208 PI7
part F pins: 34 NRst, 92 VCap_1, 126 PK0, 127 PK1, 128 PK2, 148 VCap_2, 186 PK3, 187 PK4, 188 PK5, 189 PK6, 190 PK7, 197 Boot0, 203 PDROn
part G pins: 6 VBat, 14 Vss, 15 Vdd, 25 Vss, 26 Vdd, 39 Vdd, 40 VssA, 41 VRef+, 42 VddA, 51 Vss, 52 Vdd, 59 Vdd, 60 Vss, 72 Vss, 73 Vdd, 82 Vss, 83 Vdd, 93 Vss, 94 Vdd, 103 Vdd, 114 Vss, 115 Vdd, 124 Vdd, 125 Vss, 136 Vss, 137 VddUSB, 149 Vss, 150 Vdd, 158 Vdd, 170 Vss, 171 Vdd, 184 Vss, 185 Vdd, 202 Vss, 204 Vdd
part A text: uC; GPIO; STM32F746BET
part B text: uC; GPIO; STM32F746BET
part C text: uC; GPIO; STM32F746BET
part D text: uC; GPIO; STM32F746BET
part E text: uC; GPIO; STM32F746BET
part F text: uC; GPIO; STM32F746BET
part G text: uC; PWR; STM32F746BET

## D_STM32F746ZGT
designator D?
part A pins: 34 PA0/WkUp, 35 PA1, 36 PA2, 37 PA3, 40 PA4, 41 PA5, 42 PA6, 43 PA7, 46 PB0, 47 PB1, 48 PB2, 69 PB10, 70 PB11, 73 PB12, 74 PB13, 75 PB14, 76 PB15, 100 PA8, 101 PA9, 102 PA10, 103 PA11, 104 PA12, 105 PA13, 109 PA14, 110 PA15, 133 PB3, 134 PB4, 135 PB5, 136 PB6, 137 PB7, 139 PB8, 140 PB9
part B pins: 7 PC13, 8 PC14/Osc32In, 9 PC15/Osc32Out, 26 PC0, 27 PC1, 28 PC2, 29 PC3, 44 PC4, 45 PC5, 77 PD8, 78 PD9, 79 PD10, 80 PD11, 81 PD12, 82 PD13, 85 PD14, 86 PD15, 96 PC6, 97 PC7, 98 PC8, 99 PC9, 111 PC10, 112 PC11, 113 PC12, 114 PD0, 115 PD1, 116 PD2, 117 PD3, 118 PD4, 119 PD5, 122 PD6, 123 PD7
part C pins: 1 PE2, 2 PE3, 3 PE4, 4 PE5, 5 PE6, 10 PF0, 11 PF1, 12 PF2, 13 PF3, 14 PF4, 15 PF5, 18 PF6, 19 PF7, 20 PF8, 21 PF9, 22 PF10, 49 PF11, 50 PF12, 53 PF13, 54 PF14, 55 PF15, 58 PE7, 59 PE8, 60 PE9, 63 PE10, 64 PE11, 65 PE12, 66 PE13, 67 PE14, 68 PE15, 141 PE0, 142 PE1
part D pins: 23 PH0/OscIn, 24 PH1/OscOut, 56 PG0, 57 PG1, 87 PG2, 88 PG3, 89 PG4, 90 PG5, 91 PG6, 92 PG7, 93 PG8, 124 PG9, 125 PG10, 126 PG11, 127 PG12, 128 PG13, 129 PG14, 132 PG15, 138 Boot0, 143 PDR_On
part E pins: 6 VBat, 16 Vss, 17 Vdd, 25 NRst, 30 Vdd, 31 VssA, 32 VRef+, 33 VddA, 38 Vss, 39 Vdd, 51 Vss, 52 Vdd, 61 Vss, 62 Vdd, 71 VCap_1, 72 Vdd, 83 Vss, 84 Vdd, 94 Vss, 95 Vdd, 106 VCap_2, 107 Vss, 108 Vdd, 120 Vss, 121 Vdd, 130 Vss, 131 Vdd, 144 Vdd
part A text: uC; GPIO; STM32F746ZGT
part B text: uC; GPIO; STM32F746ZGT
part C text: uC; GPIO; STM32F746ZGT
part D text: uC; GPIO; STM32F746ZGT
part E text: uC; PWR; STM32F746ZGT

## D_TCA9554PWR
designator D?
pins: 1 A0, 2 A1, 3 A2, 4 P0, 5 P1, 6 P2, 7 P3, 8 Gnd, 9 P4, 10 P5, 11 P6, 12 P7, 13 ~{INT}, 14 SCL, 15 SDA, 16 Vcc
text: I/O; TCA9554PWR

## D_TL431AID
designator D?
pins: 1 C, 2 A, 3 A, 4 NC, 5 NC, 6 A, 7 A, 8 Ref
text: REF; TL431AID

## D_TLP181
designator D?
pins: 1 A, 3 K, 4 E, 6 C
text: TLP181

## D_TLP281
designator D?
pins: 1 A, 2 K, 3 E, 4 C
text: TLP281

## D_TLP281-4
designator D?
part A pins: 1 A, 2 K, 15 E, 16 C
part B pins: 3 A, 4 K, 13 E, 14 C
part C pins: 5 A, 6 K, 11 E, 12 C
part D pins: 7 A, 8 K, 9 E, 10 C
part A text: TLP281-4
part B text: TLP281-4
part C text: TLP281-4
part D text: TLP281-4

## D_TLP521-2
designator D?
part A pins: 1 A, 2 K, 7 E, 8 C
part B pins: 3 A, 4 K, 5 E, 6 C
part A text: TLP521-2
part B text: TLP521-2

## D_TLP521-4
designator D?
part A pins: 1 A, 2 K, 15 E, 16 C
part B pins: 3 A, 4 K, 13 E, 14 C
part C pins: 5 A, 6 K, 11 E, 12 C
part D pins: 7 A, 8 K, 9 E, 10 C
part A text: TLP521-4
part B text: TLP521-4
part C text: TLP521-4
part D text: TLP521-4

## D_TMP06
designator D?
pins: 1 Out, 2 Conv/In, 3 Func, 4 Gnd, 5 Vdd
text: SEN; TMP06

## D_TPS76301DBV
designator D?
pins: 1 In, 2 Gnd, 3 En, 4 FB, 5 Out
text: PWR; TPS76301DBV

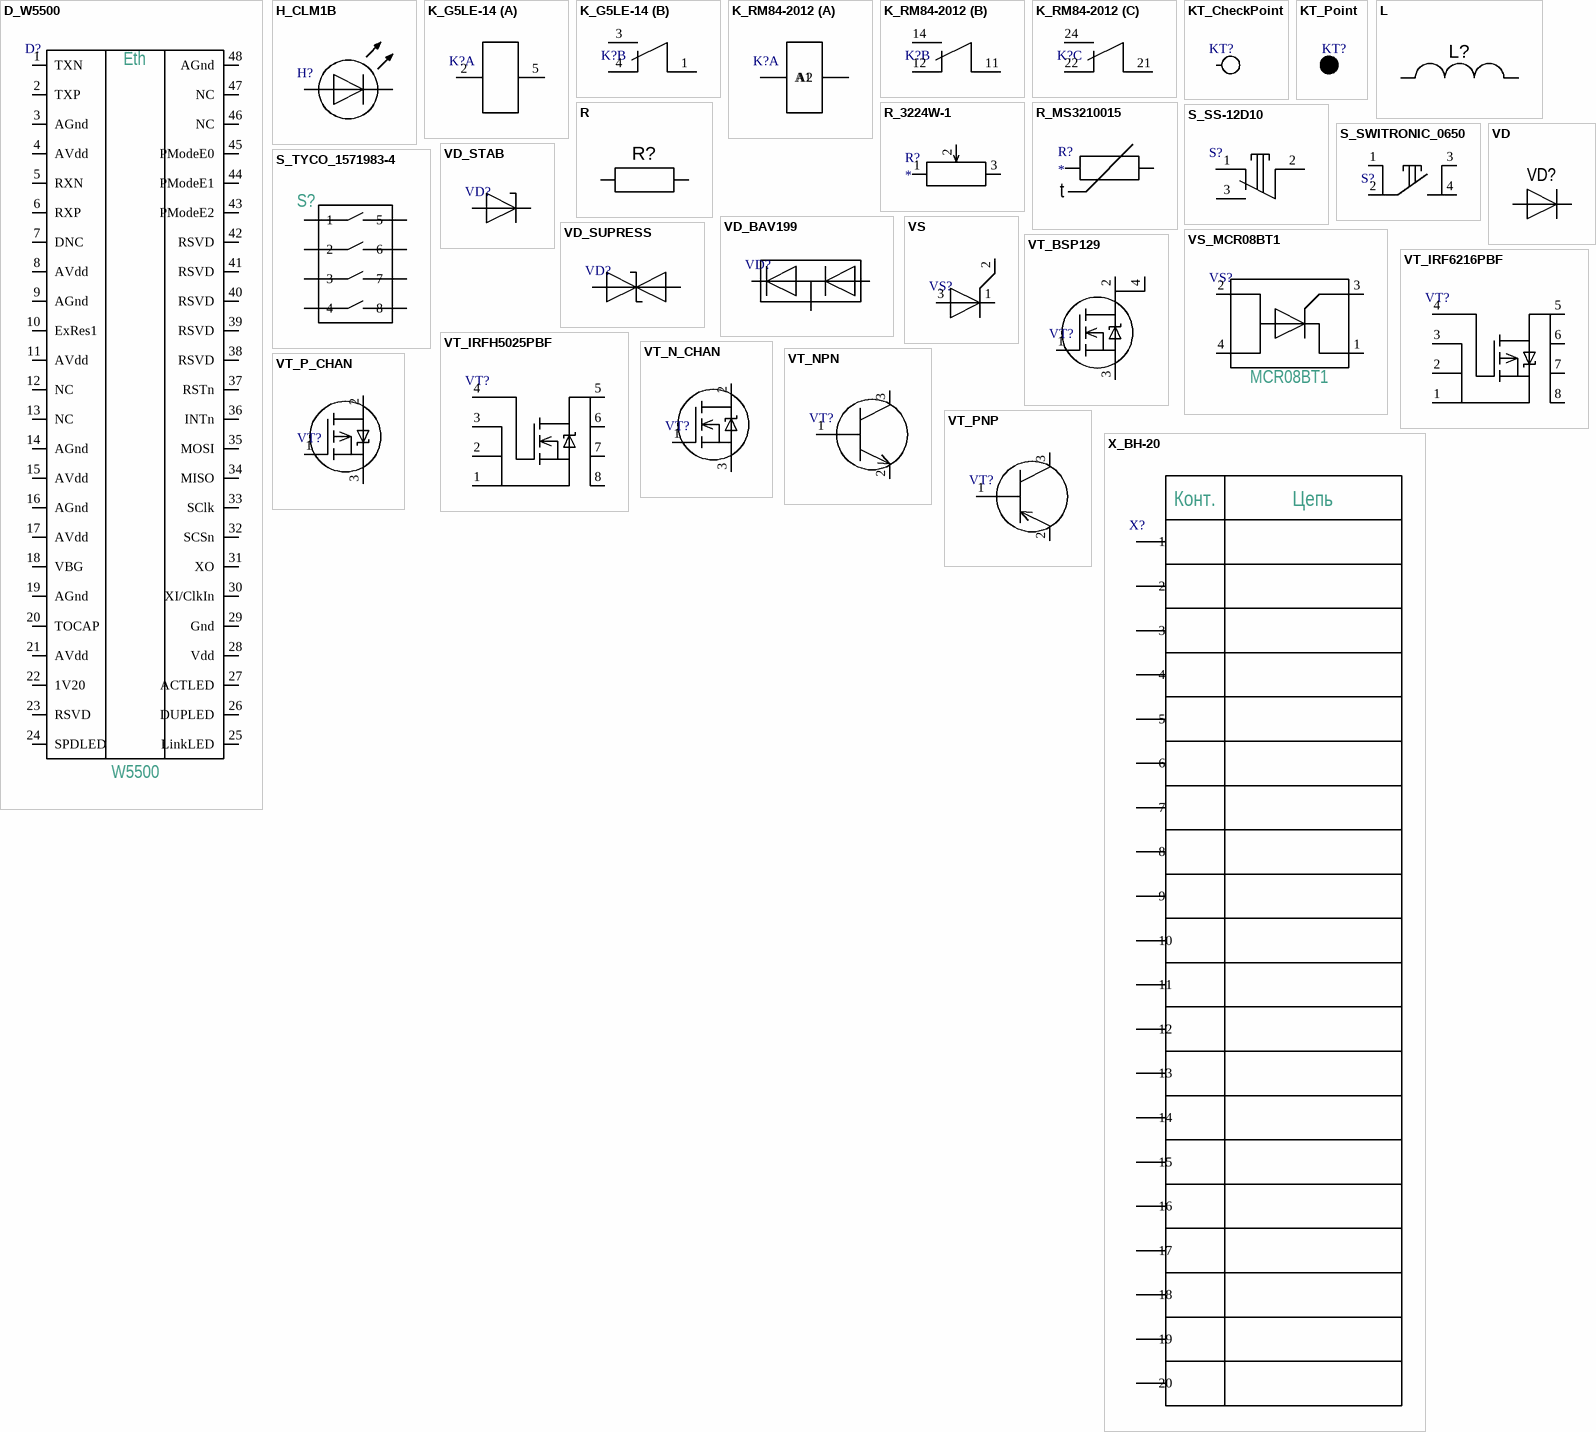
[diagram p6: symbols D_W5500 to X_BH-20]

## D_W5500
designator D?
pins: 1 TXN, 2 TXP, 3 AGnd, 4 AVdd, 5 RXN, 6 RXP, 7 DNC, 8 AVdd, 9 AGnd, 10 ExRes1, 11 AVdd, 12 NC, 13 NC, 14 AGnd, 15 AVdd, 16 AGnd, 17 AVdd, 18 VBG, 19 AGnd, 20 TOCAP, 21 AVdd, 22 1V20, 23 RSVD, 24 SPDLED, 25 LinkLED, 26 DUPLED, 27 ACTLED, 28 Vdd, 29 Gnd, 30 XI/ClkIn, 31 XO, 32 SCSn, 33 SClk, 34 MISO, 35 MOSI, 36 INTn, 37 RSTn, 38 RSVD, 39 RSVD, 40 RSVD, 41 RSVD, 42 RSVD, 43 PModeE2, 44 PModeE1, 45 PModeE0, 46 NC, 47 NC, 48 AGnd
text: Eth; W5500

## H_CLM1B
designator H?
pins: 1 A, 2 K

## K_G5LE-14
designator K?
part A pins: 2, 5
part B pins: 1, 3, 4

## K_RM84-2012
designator K?
part A pins: 1 A1, 2 A2
part B pins: 11, 12, 14
part C pins: 21, 22, 24

## KT_CheckPoint
designator KT?
pins: 1

## KT_Point
designator KT?
pins: 1

## L
designator L?
pins: 1, 2

## R
designator R?
pins: 1, 2

## R_3224W-1
designator R?
Value: *
pins: 1, 2, 3

## R_MS3210015
designator R?
Value: *
pins: 1, 2
text: t

## S_SS-12D10
designator S?
pins: 1, 2, 3

## S_SWITRONIC_0650
designator S?
pins: 1, 2, 3, 4

## S_TYCO_1571983-4
designator S?  (value not drawn)
pins: 1, 2, 3, 4, 5, 6, 7, 8

## VD
designator VD?
pins: 1 A, 2 K

## VD_BAV199
designator VD?
pins: 1, 2, 3

## VD_STAB
designator VD?
pins: 1 A, 2 K

## VD_SUPRESS
designator VD?
pins: 1 K, 2 A

## VS
designator VS?
pins: 1 K, 2 G, 3 A

## VS_MCR08BT1
designator VS?
pins: 1 K, 2 A, 3 G, 4 A
text: MCR08BT1

## VT_BSP129
designator VT?
pins: 1 g, 2 d, 3 s, 4 s

## VT_IRF6216PBF
designator VT?
pins: 1 s, 2 s, 3 s, 4 g, 5 d, 6 d, 7 d, 8 d

## VT_IRFH5025PBF
designator VT?
pins: 1 s, 2 s, 3 s, 4 g, 5 d, 6 d, 7 d, 8 d

## VT_N_CHAN
designator VT?
pins: 1 g, 2 d, 3 s

## VT_NPN
designator VT?
pins: 1 b, 2 e, 3 c

## VT_P_CHAN
designator VT?
pins: 1 g, 2 d, 3 s

## VT_PNP
designator VT?
pins: 1 b, 2 e, 3 c

## X_BH-20
designator X?
pins: 1, 2, 3, 4, 5, 6, 7, 8, 9, 10, 11, 12, 13, 14, 15, 16, 17, 18, 19, 20
text: Конт.; Цепь

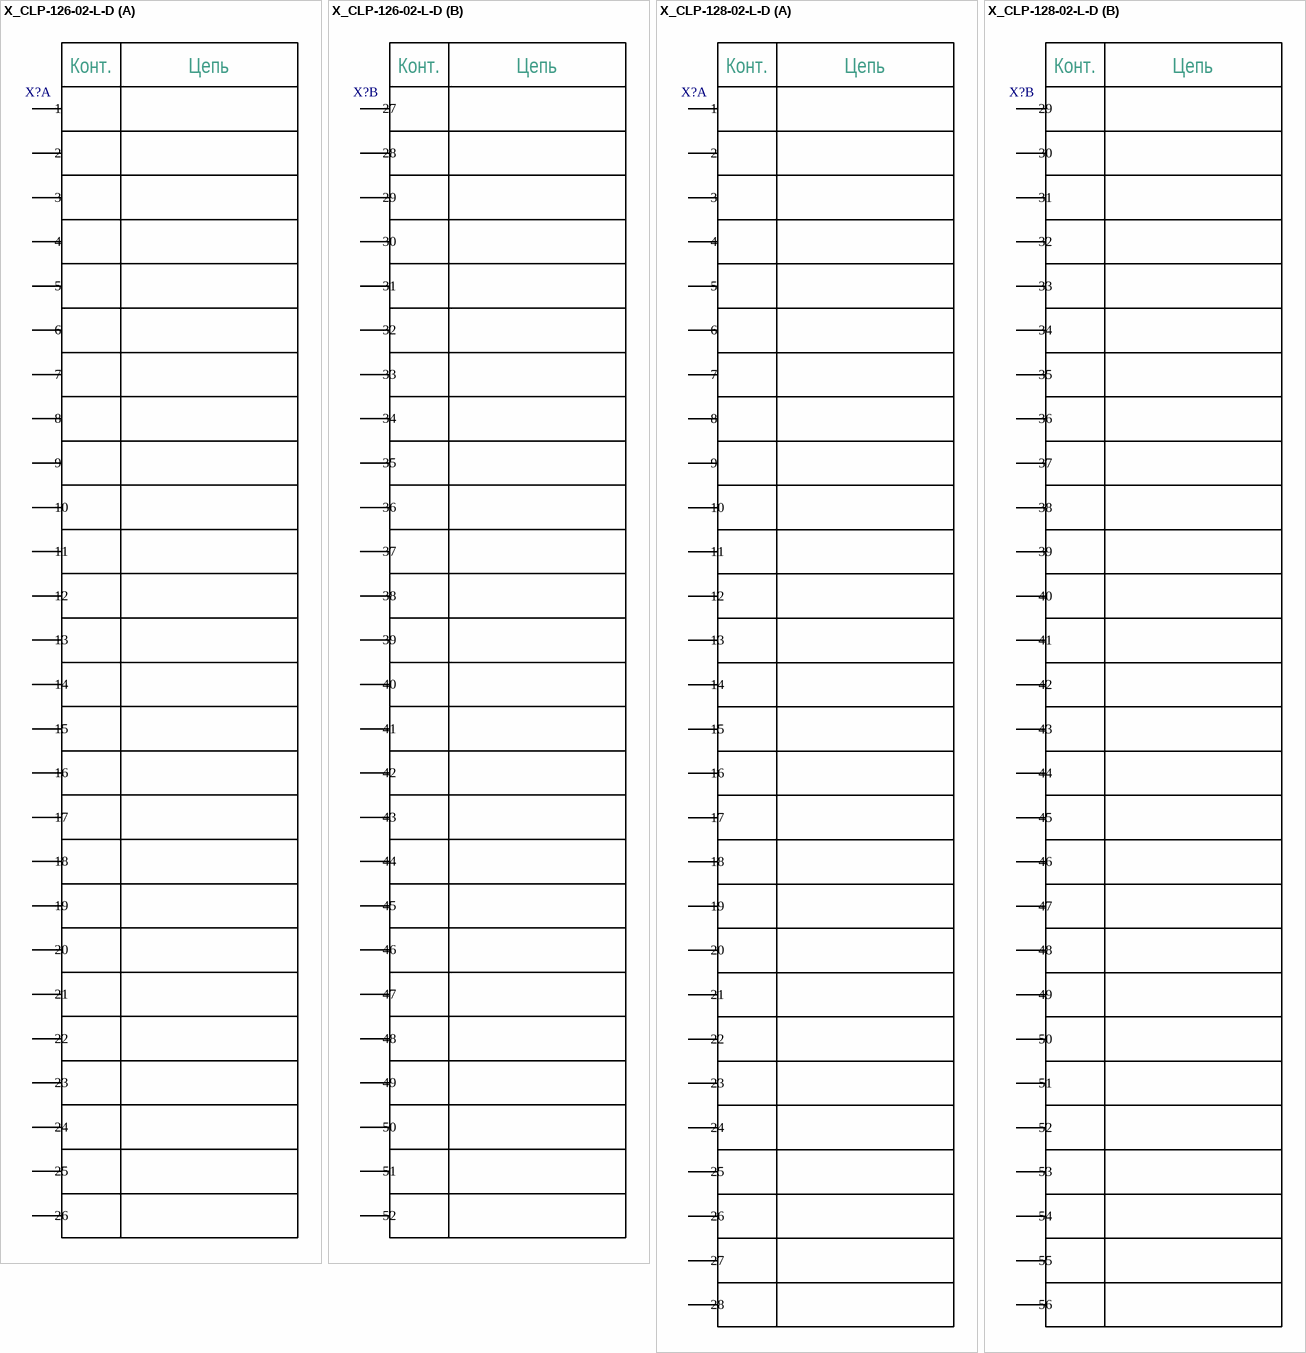
[diagram p7: symbols X_CLP-126-02-L-D to X_CLP-128-02-L-D]

## X_CLP-126-02-L-D
designator X?
part A pins: 1, 2, 3, 4, 5, 6, 7, 8, 9, 10, 11, 12, 13, 14, 15, 16, 17, 18, 19, 20, 21, 22, 23, 24, 25, 26
part B pins: 27, 28, 29, 30, 31, 32, 33, 34, 35, 36, 37, 38, 39, 40, 41, 42, 43, 44, 45, 46, 47, 48, 49, 50, 51, 52
part A text: Конт.; Цепь
part B text: Конт.; Цепь

## X_CLP-128-02-L-D
designator X?
part A pins: 1, 2, 3, 4, 5, 6, 7, 8, 9, 10, 11, 12, 13, 14, 15, 16, 17, 18, 19, 20, 21, 22, 23, 24, 25, 26, 27, 28
part B pins: 29, 30, 31, 32, 33, 34, 35, 36, 37, 38, 39, 40, 41, 42, 43, 44, 45, 46, 47, 48, 49, 50, 51, 52, 53, 54, 55, 56
part A text: Конт.; Цепь
part B text: Конт.; Цепь

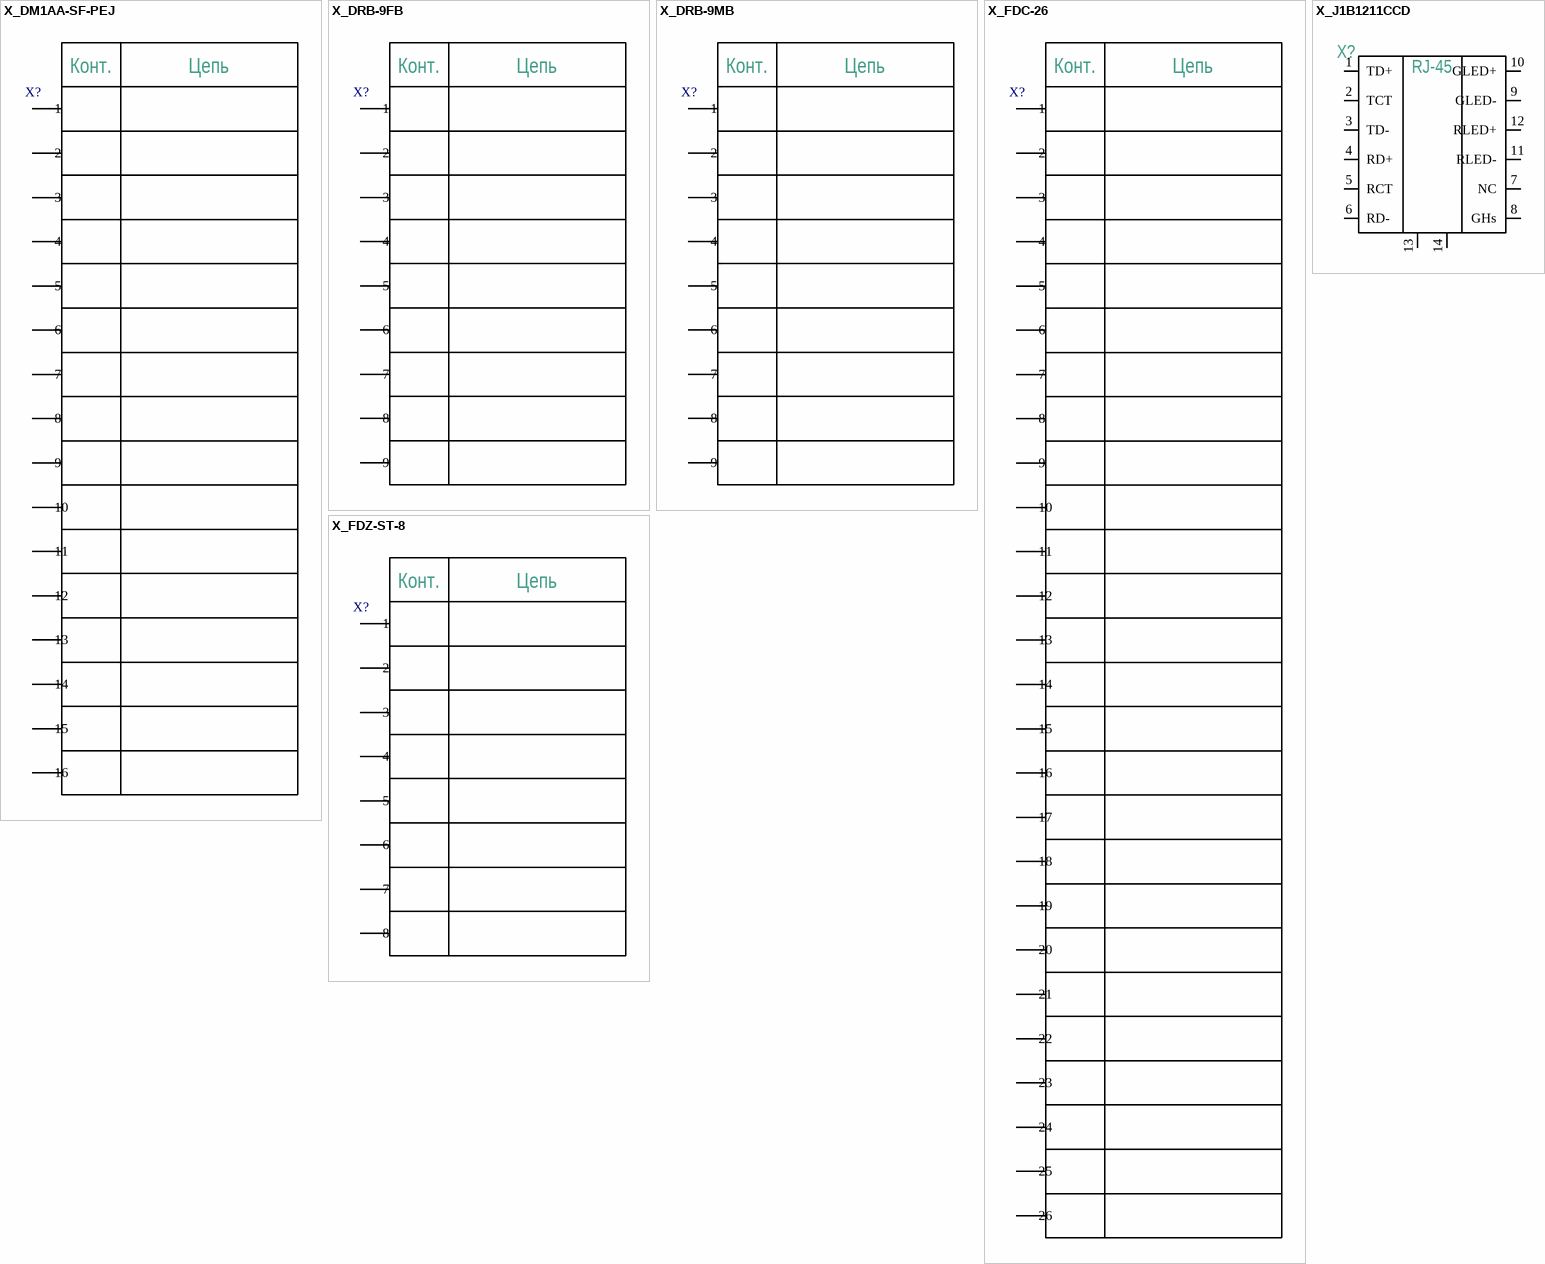
[diagram p8: symbols X_DM1AA-SF-PEJ to X_J1B1211CCD]

## X_DM1AA-SF-PEJ
designator X?
pins: 1, 2, 3, 4, 5, 6, 7, 8, 9, 10, 11, 12, 13, 14, 15, 16
text: Конт.; Цепь

## X_DRB-9FB
designator X?
pins: 1, 2, 3, 4, 5, 6, 7, 8, 9
text: Конт.; Цепь

## X_DRB-9MB
designator X?
pins: 1, 2, 3, 4, 5, 6, 7, 8, 9
text: Конт.; Цепь

## X_FDC-26
designator X?
pins: 1, 2, 3, 4, 5, 6, 7, 8, 9, 10, 11, 12, 13, 14, 15, 16, 17, 18, 19, 20, 21, 22, 23, 24, 25, 26
text: Конт.; Цепь

## X_FDZ-ST-8
designator X?
pins: 1, 2, 3, 4, 5, 6, 7, 8
text: Конт.; Цепь

## X_J1B1211CCD
designator X?  (value not drawn)
pins: 1 TD+, 2 TCT, 3 TD-, 4 RD+, 5 RCT, 6 RD-, 7 NC, 8 GHs, 9 GLED-, 10 GLED+, 11 RLED-, 12 RLED+, 13, 14
text: RJ-45

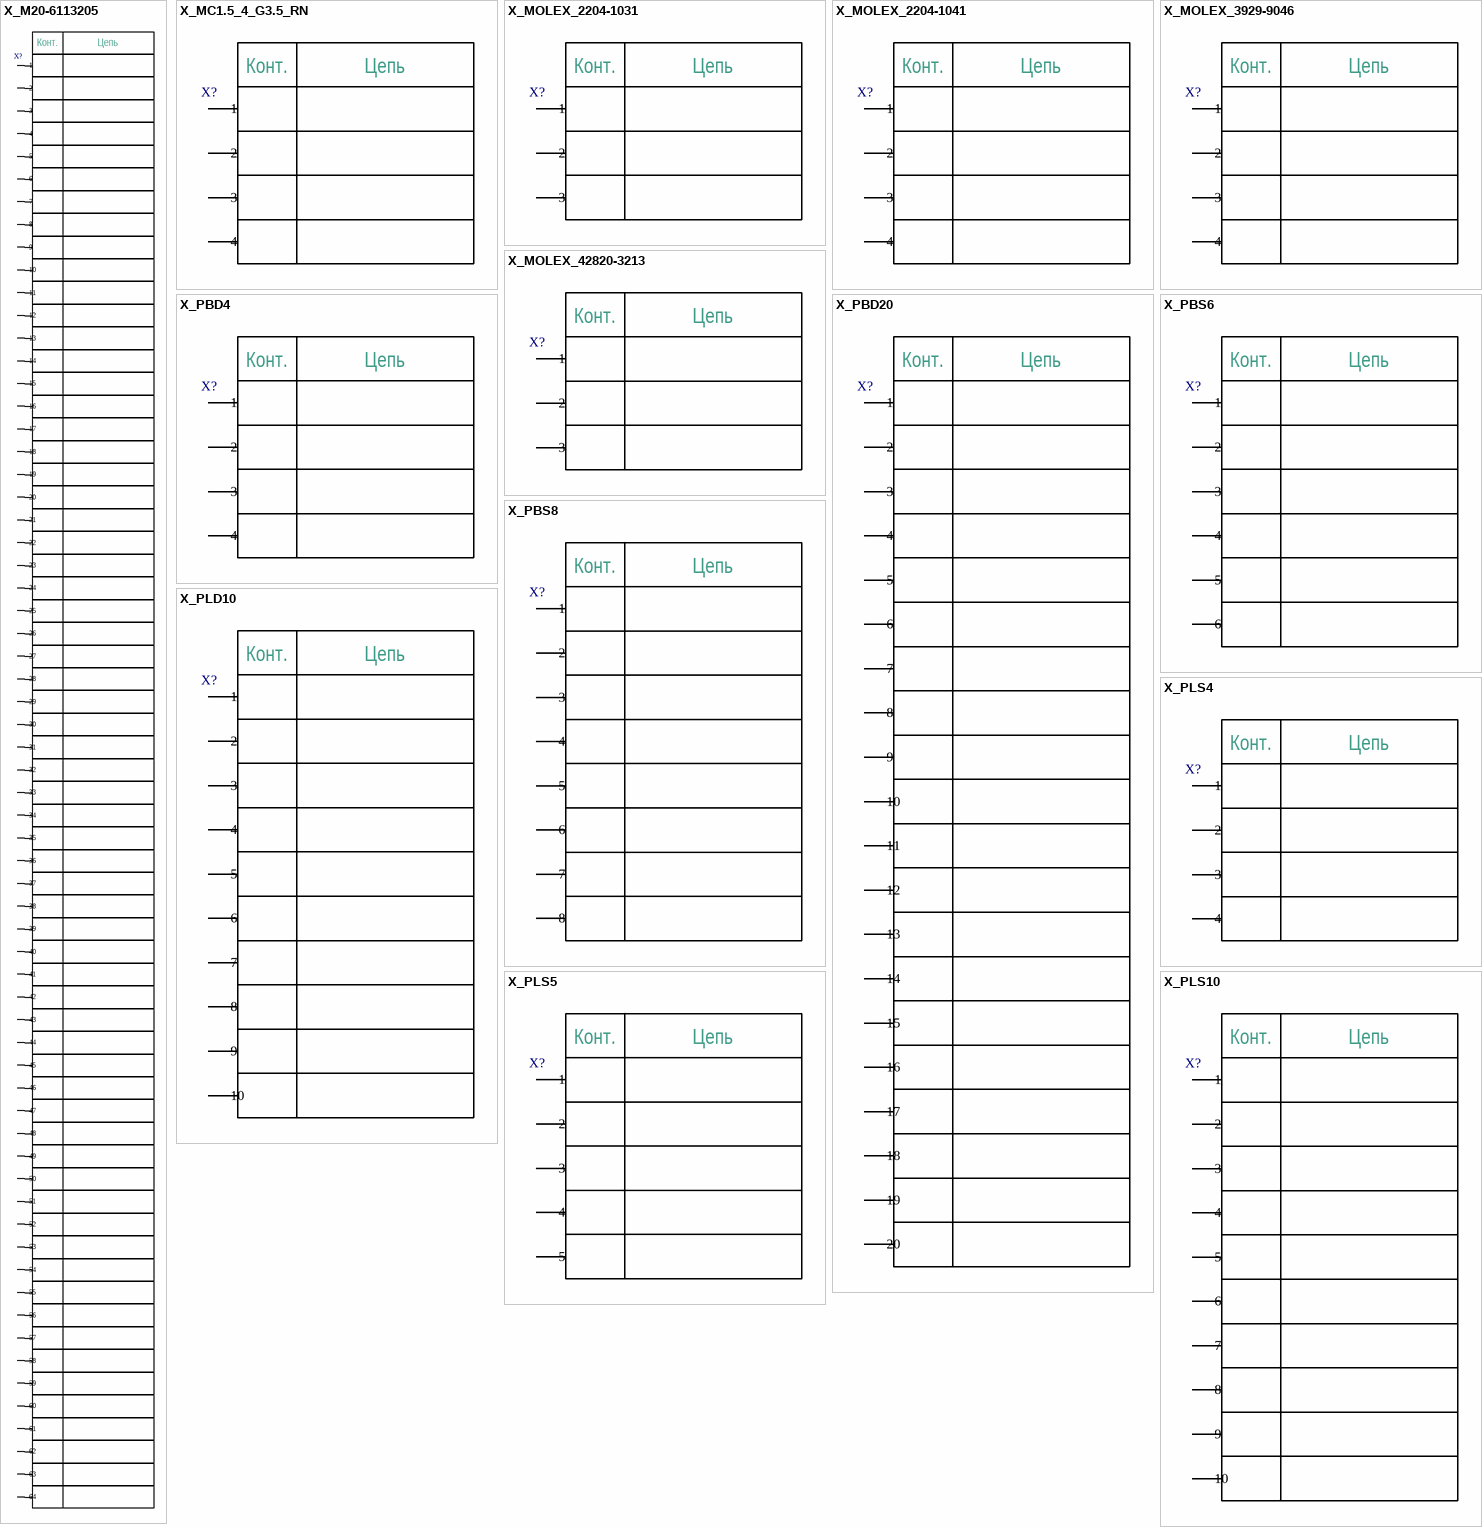
[diagram p9: symbols X_M20-6113205 to X_PLS10]

## X_M20-6113205
designator X?
pins: 1, 2, 3, 4, 5, 6, 7, 8, 9, 10, 11, 12, 13, 14, 15, 16, 17, 18, 19, 20, 21, 22, 23, 24, 25, 26, 27, 28, 29, 30, 31, 32, 33, 34, 35, 36, 37, 38, 39, 40, 41, 42, 43, 44, 45, 46, 47, 48, 49, 50, 51, 52, 53, 54, 55, 56, 57, 58, 59, 60, 61, 62, 63, 64
text: Конт.; Цепь

## X_MC1.5_4_G3.5_RN
designator X?
pins: 1, 2, 3, 4
text: Конт.; Цепь

## X_MOLEX_2204-1031
designator X?
pins: 1, 2, 3
text: Конт.; Цепь

## X_MOLEX_2204-1041
designator X?
pins: 1, 2, 3, 4
text: Конт.; Цепь

## X_MOLEX_3929-9046
designator X?
pins: 1, 2, 3, 4
text: Конт.; Цепь

## X_MOLEX_42820-3213
designator X?
pins: 1, 2, 3
text: Конт.; Цепь

## X_PBD4
designator X?
pins: 1, 2, 3, 4
text: Конт.; Цепь

## X_PBD20
designator X?
pins: 1, 2, 3, 4, 5, 6, 7, 8, 9, 10, 11, 12, 13, 14, 15, 16, 17, 18, 19, 20
text: Конт.; Цепь

## X_PBS6
designator X?
pins: 1, 2, 3, 4, 5, 6
text: Конт.; Цепь

## X_PBS8
designator X?
pins: 1, 2, 3, 4, 5, 6, 7, 8
text: Конт.; Цепь

## X_PLD10
designator X?
pins: 1, 2, 3, 4, 5, 6, 7, 8, 9, 10
text: Конт.; Цепь

## X_PLS4
designator X?
pins: 1, 2, 3, 4
text: Конт.; Цепь

## X_PLS5
designator X?
pins: 1, 2, 3, 4, 5
text: Конт.; Цепь

## X_PLS10
designator X?
pins: 1, 2, 3, 4, 5, 6, 7, 8, 9, 10
text: Конт.; Цепь

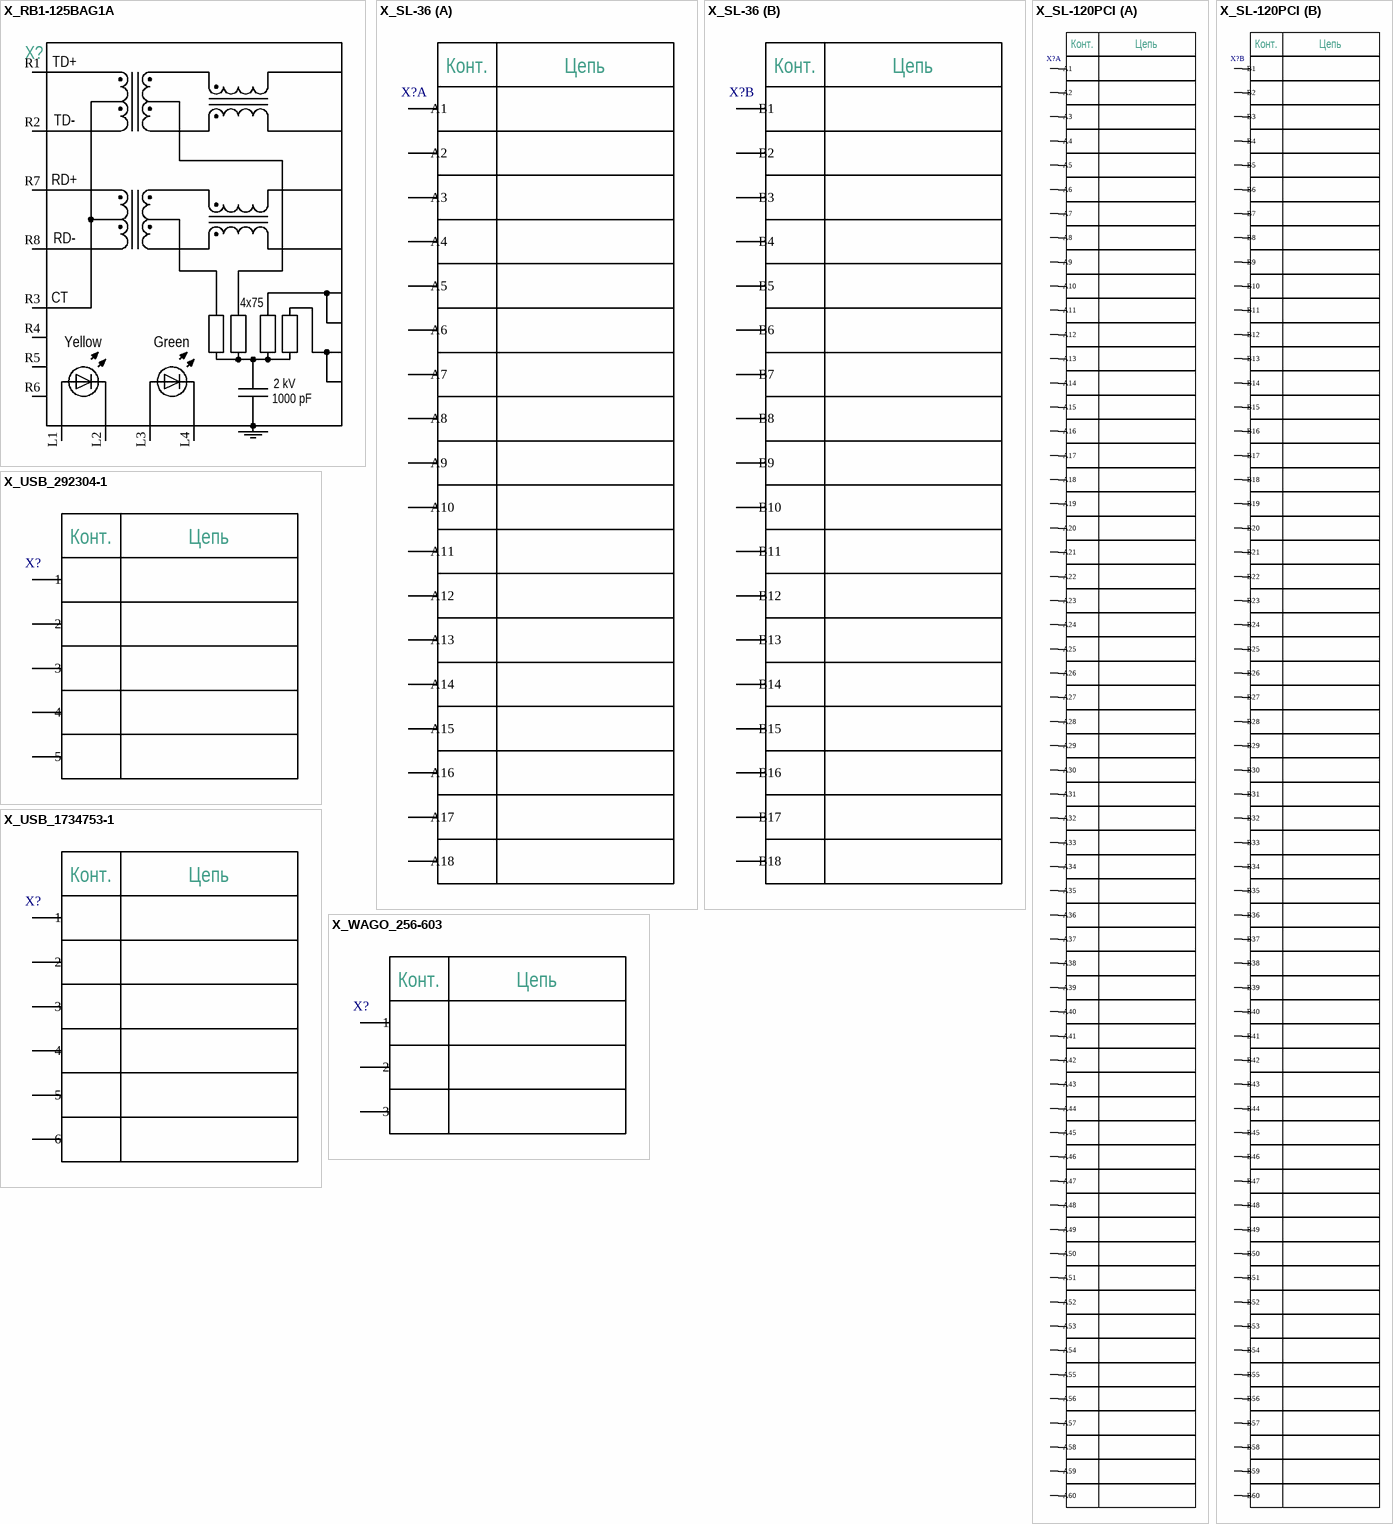
[diagram p10: symbols X_RB1-125BAG1A to X_WAGO_256-603]

## X_RB1-125BAG1A
designator X?  (value not drawn)
pins: L1, L2, L3, L4, R1 TD+, R2 TD-, R3 CT, R4, R5, R6, R7 RD+, R8 RD-
text: 4x75; Yellow; Green; 2 kV; 1000 pF

## X_SL-36
designator X?
part A pins: 1 A1, 2 A2, 3 A3, 4 A4, 5 A5, 6 A6, 7 A7, 8 A8, 9 A9, 10 A10, 11 A11, 12 A12, 13 A13, 14 A14, 15 A15, 16 A16, 17 A17, 18 A18
part B pins: 19 B1, 20 B2, 21 B3, 22 B4, 23 B5, 24 B6, 25 B7, 26 B8, 27 B9, 28 B10, 29 B11, 30 B12, 31 B13, 32 B14, 33 B15, 34 B16, 35 B17, 36 B18
part A text: Конт.; Цепь
part B text: Конт.; Цепь

## X_SL-120PCI
designator X?
part A pins: 1 A1, 2 A2, 3 A3, 4 A4, 5 A5, 6 A6, 7 A7, 8 A8, 9 A9, 10 A10, 11 A11, 12 A12, 13 A13, 14 A14, 15 A15, 16 A16, 17 A17, 18 A18, 19 A19, 20 A20, 21 A21, 22 A22, 23 A23, 24 A24, 25 A25, 26 A26, 27 A27, 28 A28, 29 A29, 30 A30, 31 A31, 32 A32, 33 A33, 34 A34, 35 A35, 36 A36, 37 A37, 38 A38, 39 A39, 40 A40, 41 A41, 42 A42, 43 A43, 44 A44, 45 A45, 46 A46, 47 A47, 48 A48, 49 A49, 50 A50, 51 A51, 52 A52, 53 A53, 54 A54, 55 A55, 56 A56, 57 A57, 58 A58, 59 A59, 60 A60
part B pins: 61 B1, 62 B2, 63 B3, 64 B4, 65 B5, 66 B6, 67 B7, 68 B8, 69 B9, 70 B10, 71 B11, 72 B12, 73 B13, 74 B14, 75 B15, 76 B16, 77 B17, 78 B18, 79 B19, 80 B20, 81 B21, 82 B22, 83 B23, 84 B24, 85 B25, 86 B26, 87 B27, 88 B28, 89 B29, 90 B30, 91 B31, 92 B32, 93 B33, 94 B34, 95 B35, 96 B36, 97 B37, 98 B38, 99 B39, 100 B40, 101 B41, 102 B42, 103 B43, 104 B44, 105 B45, 106 B46, 107 B47, 108 B48, 109 B49, 110 B50, 111 B51, 112 B52, 113 B53, 114 B54, 115 B55, 116 B56, 117 B57, 118 B58, 119 B59, 120 B60
part A text: Конт.; Цепь
part B text: Конт.; Цепь

## X_USB_292304-1
designator X?
pins: 1, 2, 3, 4, 5
text: Конт.; Цепь

## X_USB_1734753-1
designator X?
pins: 1, 2, 3, 4, 5, 6
text: Конт.; Цепь

## X_WAGO_256-603
designator X?
pins: 1, 2, 3
text: Конт.; Цепь

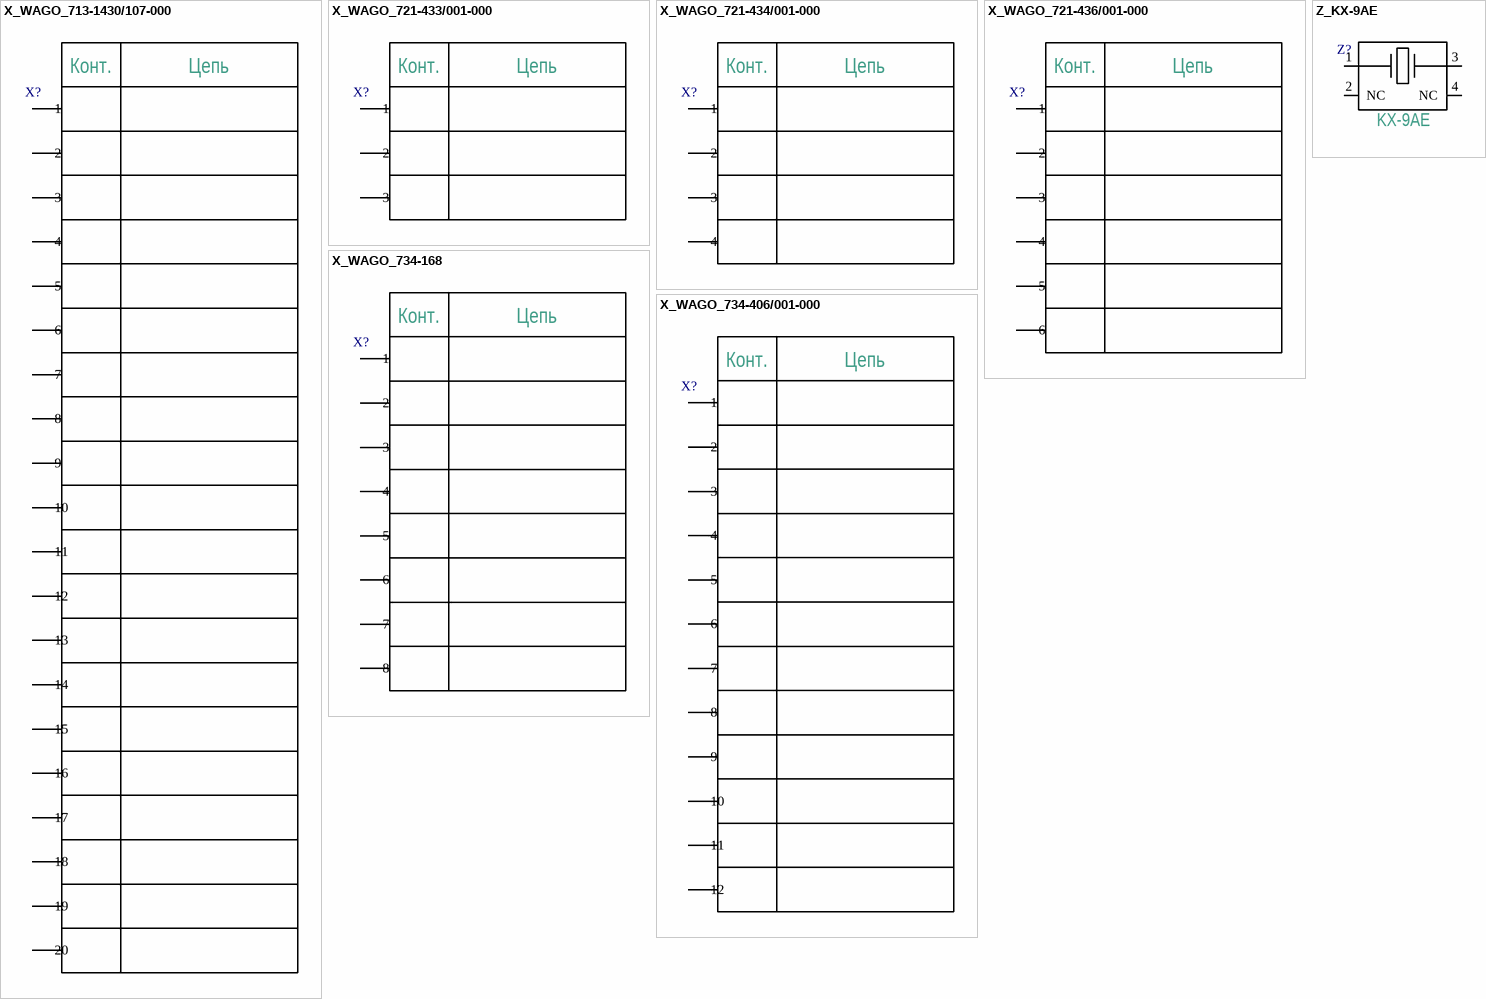
[diagram p11: symbols X_WAGO_713-1430/107-000 to Z_KX-9AE]

## X_WAGO_713-1430/107-000
designator X?
pins: 1, 2, 3, 4, 5, 6, 7, 8, 9, 10, 11, 12, 13, 14, 15, 16, 17, 18, 19, 20
text: Конт.; Цепь

## X_WAGO_721-433/001-000
designator X?
pins: 1, 2, 3
text: Конт.; Цепь

## X_WAGO_721-434/001-000
designator X?
pins: 1, 2, 3, 4
text: Конт.; Цепь

## X_WAGO_721-436/001-000
designator X?
pins: 1, 2, 3, 4, 5, 6
text: Конт.; Цепь

## X_WAGO_734-168
designator X?
pins: 1, 2, 3, 4, 5, 6, 7, 8
text: Конт.; Цепь

## X_WAGO_734-406/001-000
designator X?
pins: 1, 2, 3, 4, 5, 6, 7, 8, 9, 10, 11, 12
text: Конт.; Цепь

## Z_KX-9AE
designator Z?
pins: 1 X1, 2 NC, 3 X2, 4 NC
text: KX-9AE